# Altium schematic symbol library TTL_Library.SchLib: 480 symbols (part 1 of 4)
Pins are listed as number, name and electrical type; pins without a type are passive.

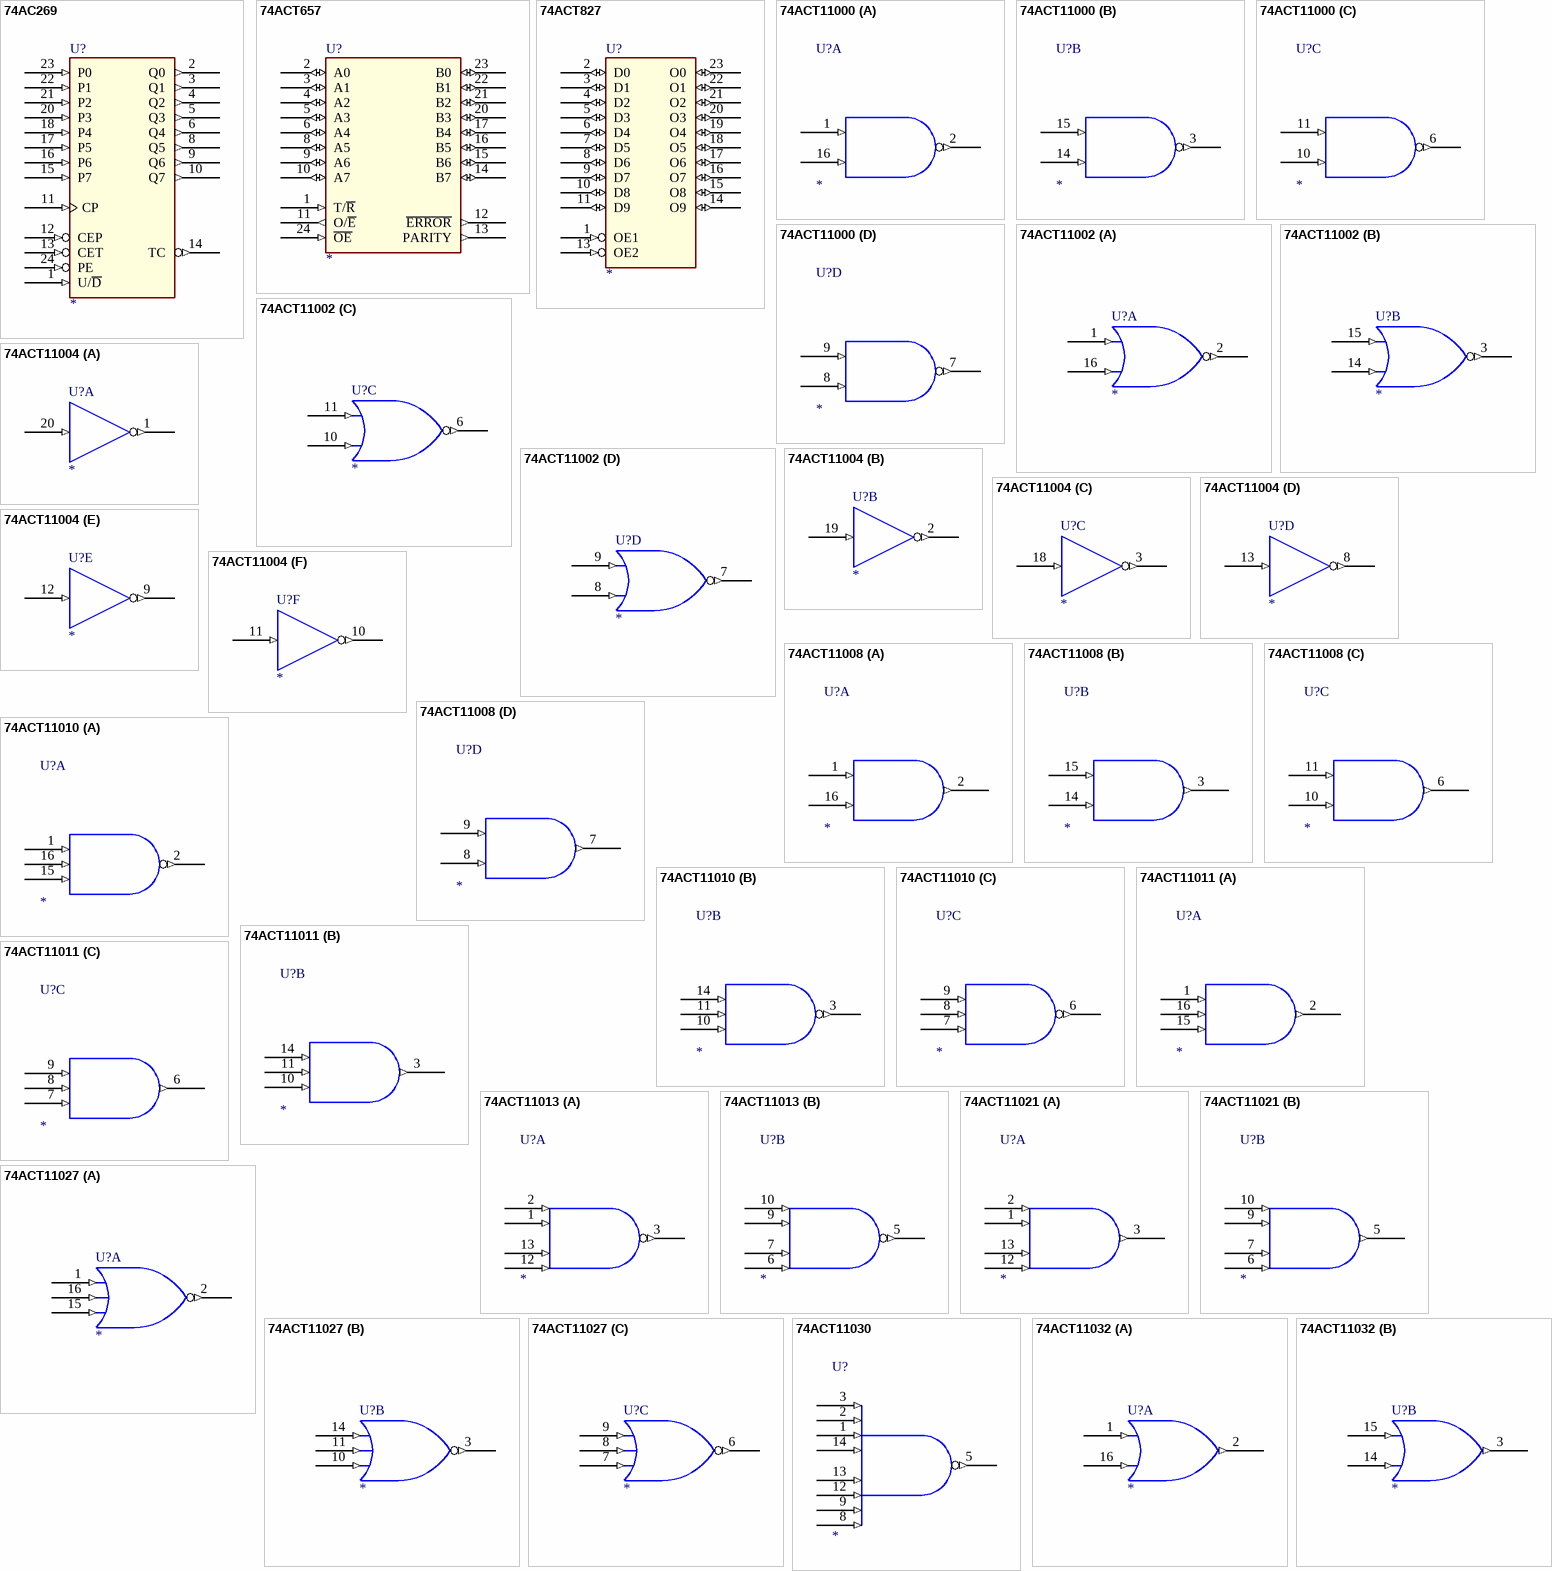
[diagram p0: symbols 74AC269 to 74ACT11032]

## 74AC269
designator U?
pins: 1 U/~{D} (in), 2 Q0 (out), 3 Q1 (out), 4 Q2 (out), 5 Q3 (out), 6 Q4 (out), 7 GND (power) hidden to GND, 8 Q5 (out), 9 Q6 (out), 10 Q7 (out), 11 CP (in), 12 CEP (in), 13 CET (in), 14 TC (out), 15 P7 (in), 16 P6 (in), 17 P5 (in), 18 P4 (in), 19 VCC (power) hidden to VCC, 20 P3 (in), 21 P2 (in), 22 P1 (in), 23 P0 (in), 24 PE (in)

## 74ACT657
designator U?
pins: 1 T/~{R} (in), 2 A0 (io), 3 A1 (io), 4 A2 (io), 5 A3 (io), 6 A4 (io), 7 VCC (power) hidden to VCC, 8 A5 (io), 9 A6 (io), 10 A7 (io), 11 O/~{E} (out), 12 ~{ERROR} (out), 13 PARITY (out), 14 B7 (io), 15 B6 (io), 16 B5 (io), 17 B4 (io), 18 GND (power) hidden to GND, 19 GND (power) hidden to GND, 20 B3 (io), 21 B2 (io), 22 B1 (io), 23 B0 (io), 24 ~{OE} (in)

## 74ACT827
designator U?
pins: 1 OE1 (in), 2 D0 (io), 3 D1 (io), 4 D2 (io), 5 D3 (io), 6 D4 (io), 7 D5 (io), 8 D6 (io), 9 D7 (io), 10 D8 (io), 11 D9 (io), 12 GND (power) hidden to GND, 13 OE2 (in), 14 O9 (io), 15 O8 (io), 16 O7 (io), 17 O6 (io), 18 O5 (io), 19 O4 (io), 20 O3 (io), 21 O2 (io), 22 O1 (io), 23 O0 (io), 24 VCC (power) hidden to VCC

## 74ACT11000
designator U?
part A pins: 1 I0 (in), 2 O (out), 4 GND (power) hidden to GND, 5 GND (power) hidden to GND, 12 VCC (power) hidden to VCC, 13 VCC (power) hidden to VCC, 16 I1 (in)
part B pins: 3 O (out), 4 GND (power) hidden to GND, 5 GND (power) hidden to GND, 12 VCC (power) hidden to VCC, 13 VCC (power) hidden to VCC, 14 I1 (in), 15 I0 (in)
part C pins: 4 GND (power) hidden to GND, 5 GND (power) hidden to GND, 6 O (out), 10 I1 (in), 11 I0 (in), 12 VCC (power) hidden to VCC, 13 VCC (power) hidden to VCC
part D pins: 4 GND (power) hidden to GND, 5 GND (power) hidden to GND, 7 O (out), 8 I1 (in), 9 I0 (in), 12 VCC (power) hidden to VCC, 13 VCC (power) hidden to VCC
1 alternate drawing of the same symbol

## 74ACT11002
designator U?
part A pins: 1 I0 (in), 2 O (out), 4 GND (power) hidden to GND, 5 GND (power) hidden to GND, 12 VCC (power) hidden to VCC, 13 VCC (power) hidden to VCC, 16 I1 (in)
part B pins: 3 O (out), 4 GND (power) hidden to GND, 5 GND (power) hidden to GND, 12 VCC (power) hidden to VCC, 13 VCC (power) hidden to VCC, 14 I1 (in), 15 I0 (in)
part C pins: 4 GND (power) hidden to GND, 5 GND (power) hidden to GND, 6 O (out), 10 I1 (in), 11 I0 (in), 12 VCC (power) hidden to VCC, 13 VCC (power) hidden to VCC
part D pins: 4 GND (power) hidden to GND, 5 GND (power) hidden to GND, 7 O (out), 8 I1 (in), 9 I0 (in), 12 VCC (power) hidden to VCC, 13 VCC (power) hidden to VCC
1 alternate drawing of the same symbol

## 74ACT11004
designator U?
part A pins: 1 O (out), 4 GND (power) hidden to GND, 5 GND (power) hidden to GND, 6 GND (power) hidden to GND, 7 GND (power) hidden to GND, 15 VCC (power) hidden to VCC, 16 VCC (power) hidden to VCC, 20 I (in)
part B pins: 2 O (out), 4 GND (power) hidden to GND, 5 GND (power) hidden to GND, 6 GND (power) hidden to GND, 7 GND (power) hidden to GND, 15 VCC (power) hidden to VCC, 16 VCC (power) hidden to VCC, 19 I (in)
part C pins: 3 O (out), 4 GND (power) hidden to GND, 5 GND (power) hidden to GND, 6 GND (power) hidden to GND, 7 GND (power) hidden to GND, 15 VCC (power) hidden to VCC, 16 VCC (power) hidden to VCC, 18 I (in)
part D pins: 4 GND (power) hidden to GND, 5 GND (power) hidden to GND, 6 GND (power) hidden to GND, 7 GND (power) hidden to GND, 8 O (out), 13 I (in), 15 VCC (power) hidden to VCC, 16 VCC (power) hidden to VCC
part E pins: 4 GND (power) hidden to GND, 5 GND (power) hidden to GND, 6 GND (power) hidden to GND, 7 GND (power) hidden to GND, 9 O (out), 12 I (in), 15 VCC (power) hidden to VCC, 16 VCC (power) hidden to VCC
part F pins: 4 GND (power) hidden to GND, 5 GND (power) hidden to GND, 6 GND (power) hidden to GND, 7 GND (power) hidden to GND, 10 O (out), 11 I (in), 15 VCC (power) hidden to VCC, 16 VCC (power) hidden to VCC
1 alternate drawing of the same symbol

## 74ACT11008
designator U?
part A pins: 1 I0 (in), 2 O (out), 4 GND (power) hidden to GND, 5 GND (power) hidden to GND, 12 VCC (power) hidden to VCC, 13 VCC (power) hidden to VCC, 16 I1 (in)
part B pins: 3 O (out), 4 GND (power) hidden to GND, 5 GND (power) hidden to GND, 12 VCC (power) hidden to VCC, 13 VCC (power) hidden to VCC, 14 I1 (in), 15 I0 (in)
part C pins: 4 GND (power) hidden to GND, 5 GND (power) hidden to GND, 6 O (out), 10 I1 (in), 11 I0 (in), 12 VCC (power) hidden to VCC, 13 VCC (power) hidden to VCC
part D pins: 4 GND (power) hidden to GND, 5 GND (power) hidden to GND, 7 O (out), 8 I1 (in), 9 I0 (in), 12 VCC (power) hidden to VCC, 13 VCC (power) hidden to VCC
1 alternate drawing of the same symbol

## 74ACT11010
designator U?
part A pins: 1 I0 (in), 2 O (out), 4 GND (power) hidden to GND, 5 GND (power) hidden to GND, 12 VCC (power) hidden to VCC, 13 VCC (power) hidden to VCC, 15 I2 (in), 16 I1 (in)
part B pins: 3 O (out), 4 GND (power) hidden to GND, 5 GND (power) hidden to GND, 10 I2 (in), 11 I1 (in), 12 VCC (power) hidden to VCC, 13 VCC (power) hidden to VCC, 14 I0 (in)
part C pins: 4 GND (power) hidden to GND, 5 GND (power) hidden to GND, 6 O (out), 7 I2 (in), 8 I1 (in), 9 I0 (in), 12 VCC (power) hidden to VCC, 13 VCC (power) hidden to VCC
1 alternate drawing of the same symbol

## 74ACT11011
designator U?
part A pins: 1 I0 (in), 2 O (out), 4 GND (power) hidden to GND, 5 GND (power) hidden to GND, 12 VCC (power) hidden to VCC, 13 VCC (power) hidden to VCC, 15 I2 (in), 16 I1 (in)
part B pins: 3 O (out), 4 GND (power) hidden to GND, 5 GND (power) hidden to GND, 10 I2 (in), 11 I1 (in), 12 VCC (power) hidden to VCC, 13 VCC (power) hidden to VCC, 14 I0 (in)
part C pins: 4 GND (power) hidden to GND, 5 GND (power) hidden to GND, 6 O (out), 7 I2 (in), 8 I1 (in), 9 I0 (in), 12 VCC (power) hidden to VCC, 13 VCC (power) hidden to VCC
1 alternate drawing of the same symbol

## 74ACT11013
designator U?
part A pins: 1 I1 (in), 2 I0 (in), 3 O (out), 4 GND (power) hidden to GND, 11 VCC (power) hidden to VCC, 12 I3 (in), 13 I2 (in)
part B pins: 4 GND (power) hidden to GND, 5 O (out), 6 I3 (in), 7 I2 (in), 9 I1 (in), 10 I0 (in), 11 VCC (power) hidden to VCC
1 alternate drawing of the same symbol

## 74ACT11021
designator U?
part A pins: 1 I1 (in), 2 I0 (in), 3 O (out), 4 GND (power) hidden to GND, 11 VCC (power) hidden to VCC, 12 I3 (in), 13 I2 (in)
part B pins: 4 GND (power) hidden to GND, 5 O (out), 6 I3 (in), 7 I2 (in), 9 I1 (in), 10 I0 (in), 11 VCC (power) hidden to VCC
1 alternate drawing of the same symbol

## 74ACT11027
designator U?
part A pins: 1 I0 (in), 2 O (out), 4 GND (power) hidden to GND, 5 GND (power) hidden to GND, 12 VCC (power) hidden to VCC, 13 VCC (power) hidden to VCC, 15 I2 (in), 16 I1 (in)
part B pins: 3 O (out), 4 GND (power) hidden to GND, 5 GND (power) hidden to GND, 10 I2 (in), 11 I1 (in), 12 VCC (power) hidden to VCC, 13 VCC (power) hidden to VCC, 14 I0 (in)
part C pins: 4 GND (power) hidden to GND, 5 GND (power) hidden to GND, 6 O (out), 7 I2 (in), 8 I1 (in), 9 I0 (in), 12 VCC (power) hidden to VCC, 13 VCC (power) hidden to VCC
1 alternate drawing of the same symbol

## 74ACT11030
designator U?
pins: 1 I2 (in), 2 I1 (in), 3 I0 (in), 4 GND (power) hidden to GND, 5 O (out), 8 I7 (in), 9 I6 (in), 11 VCC (power) hidden to VCC, 12 I5 (in), 13 I4 (in), 14 I3 (in)
1 alternate drawing of the same symbol

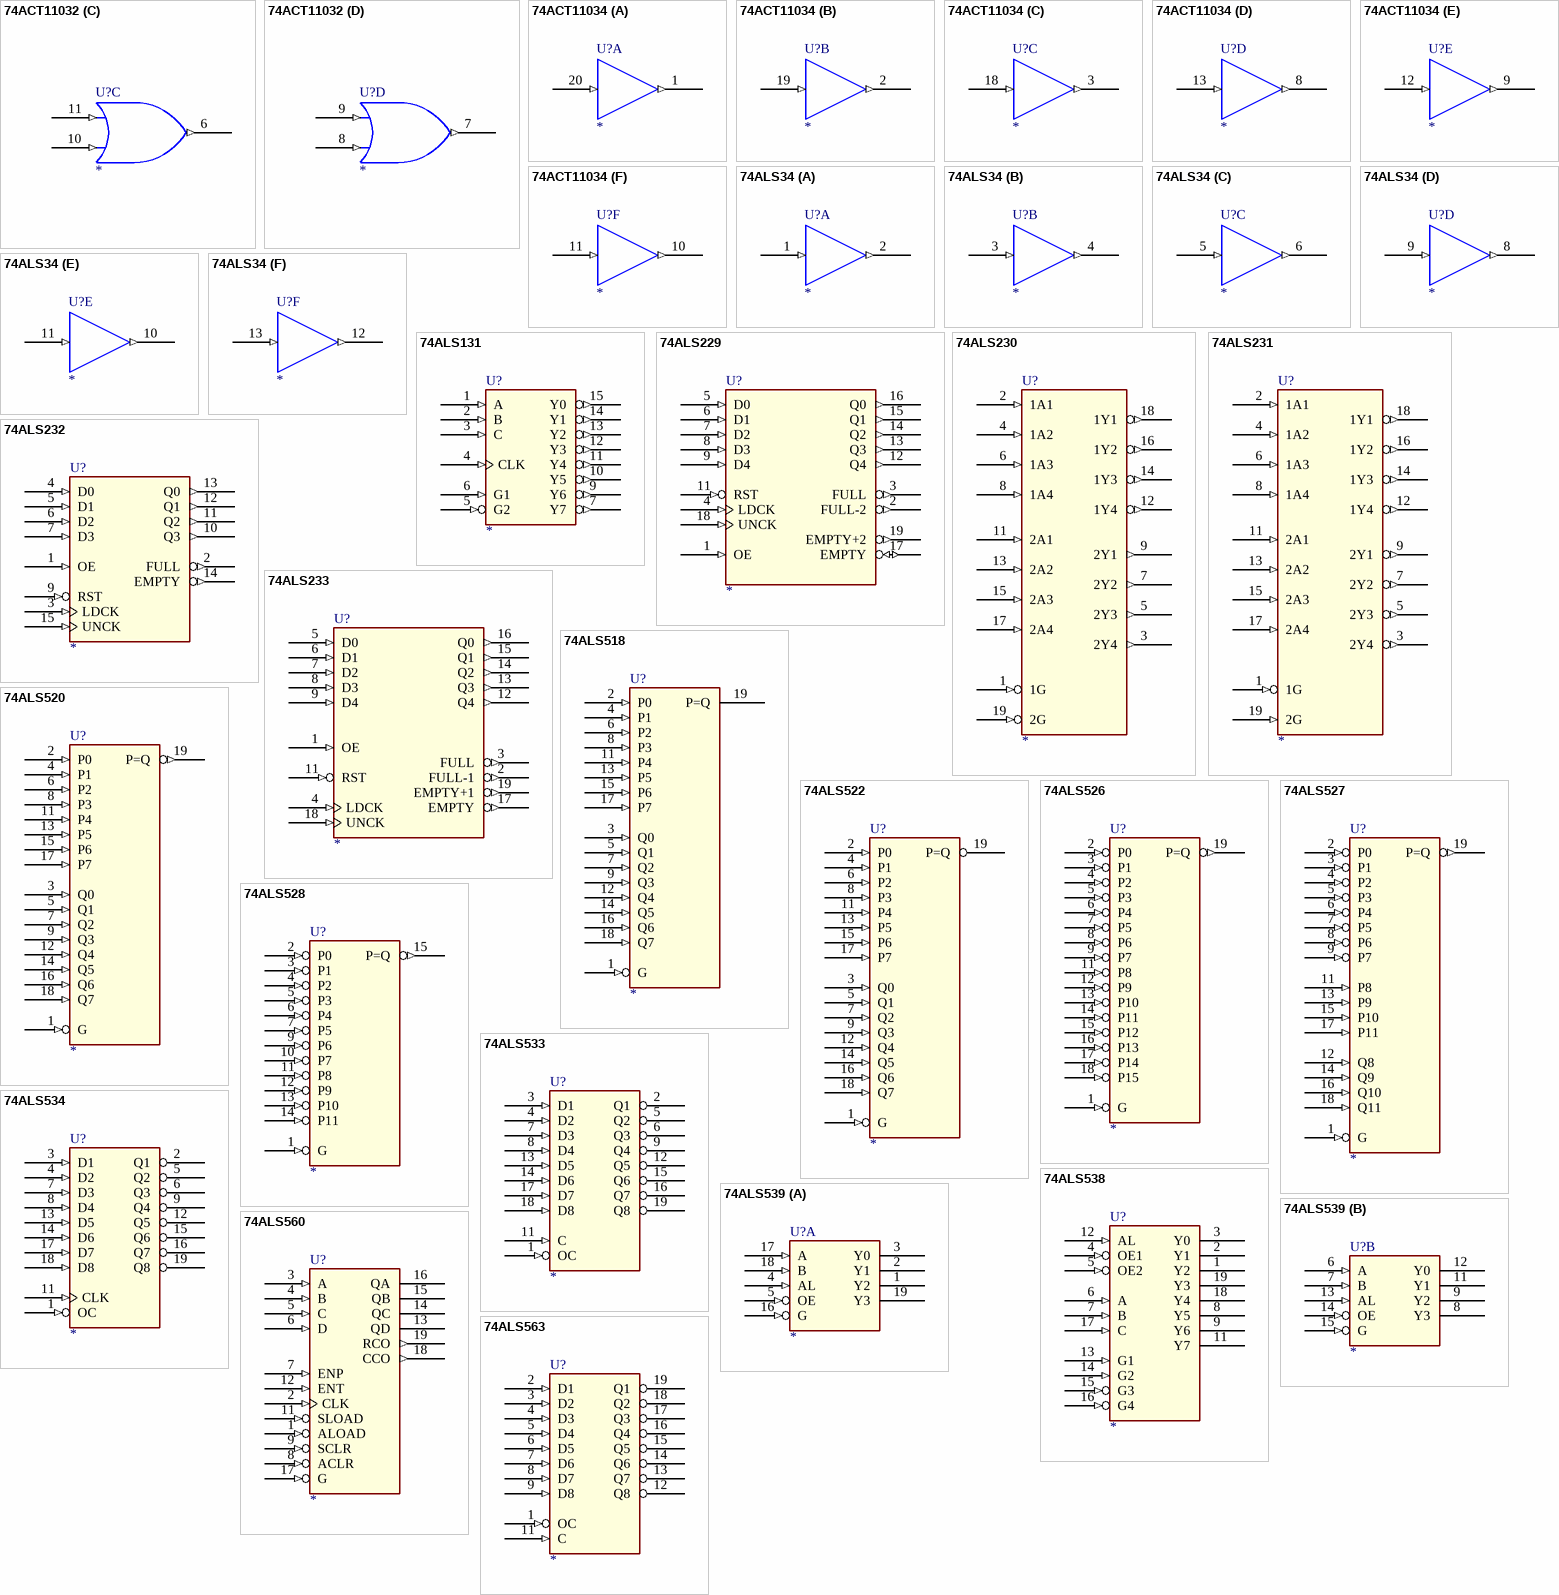
[diagram p1: symbols 74ACT11032 to 74ALS563]

## 74ACT11032
designator U?
part A pins: 1 I0 (in), 2 O (out), 4 GND (power) hidden to GND, 5 GND (power) hidden to GND, 12 VCC (power) hidden to VCC, 13 VCC (power) hidden to VCC, 16 I1 (in)
part B pins: 3 O (out), 4 GND (power) hidden to GND, 5 GND (power) hidden to GND, 12 VCC (power) hidden to VCC, 13 VCC (power) hidden to VCC, 14 I1 (in), 15 I0 (in)
part C pins: 4 GND (power) hidden to GND, 5 GND (power) hidden to GND, 6 O (out), 10 I1 (in), 11 I0 (in), 12 VCC (power) hidden to VCC, 13 VCC (power) hidden to VCC
part D pins: 4 GND (power) hidden to GND, 5 GND (power) hidden to GND, 7 O (out), 8 I1 (in), 9 I0 (in), 12 VCC (power) hidden to VCC, 13 VCC (power) hidden to VCC
1 alternate drawing of the same symbol

## 74ACT11034
designator U?
part A pins: 1 O (out), 4 GND (power) hidden to GND, 5 GND (power) hidden to GND, 6 GND (power) hidden to GND, 7 GND (power) hidden to GND, 15 VCC (power) hidden to VCC, 16 VCC (power) hidden to VCC, 20 I (in)
part B pins: 2 O (out), 4 GND (power) hidden to GND, 5 GND (power) hidden to GND, 6 GND (power) hidden to GND, 7 GND (power) hidden to GND, 15 VCC (power) hidden to VCC, 16 VCC (power) hidden to VCC, 19 I (in)
part C pins: 3 O (out), 4 GND (power) hidden to GND, 5 GND (power) hidden to GND, 6 GND (power) hidden to GND, 7 GND (power) hidden to GND, 15 VCC (power) hidden to VCC, 16 VCC (power) hidden to VCC, 18 I (in)
part D pins: 4 GND (power) hidden to GND, 5 GND (power) hidden to GND, 6 GND (power) hidden to GND, 7 GND (power) hidden to GND, 8 O (out), 13 I (in), 15 VCC (power) hidden to VCC, 16 VCC (power) hidden to VCC
part E pins: 4 GND (power) hidden to GND, 5 GND (power) hidden to GND, 6 GND (power) hidden to GND, 7 GND (power) hidden to GND, 9 O (out), 12 I (in), 15 VCC (power) hidden to VCC, 16 VCC (power) hidden to VCC
part F pins: 4 GND (power) hidden to GND, 5 GND (power) hidden to GND, 6 GND (power) hidden to GND, 7 GND (power) hidden to GND, 10 O (out), 11 I (in), 15 VCC (power) hidden to VCC, 16 VCC (power) hidden to VCC
1 alternate drawing of the same symbol

## 74ALS34
designator U?
part A pins: 1 I (in), 2 O (out), 7 GND (power) hidden to GND, 14 VCC (power) hidden to VCC
part B pins: 3 I (in), 4 O (out), 7 GND (power) hidden to GND, 14 VCC (power) hidden to VCC
part C pins: 5 I (in), 6 O (out), 7 GND (power) hidden to GND, 14 VCC (power) hidden to VCC
part D pins: 7 GND (power) hidden to GND, 8 O (out), 9 I (in), 14 VCC (power) hidden to VCC
part E pins: 7 GND (power) hidden to GND, 10 O (out), 11 I (in), 14 VCC (power) hidden to VCC
part F pins: 7 GND (power) hidden to GND, 12 O (out), 13 I (in), 14 VCC (power) hidden to VCC
1 alternate drawing of the same symbol

## 74ALS131
designator U?
pins: 1 A (in), 2 B (in), 3 C (in), 4 CLK (in), 5 G2 (in), 6 G1 (in), 7 Y7 (out), 8 GND (power) hidden to GND, 9 Y6 (out), 10 Y5 (out), 11 Y4 (out), 12 Y3 (out), 13 Y2 (out), 14 Y1 (out), 15 Y0 (out), 16 VCC (power) hidden to VCC

## 74ALS229
designator U?
pins: 1 OE (in), 2 FULL-2 (out), 3 FULL (out), 4 LDCK (in), 5 D0 (in), 6 D1 (in), 7 D2 (in), 8 D3 (in), 9 D4 (in), 10 GND (power) hidden to GND, 11 RST (in), 12 Q4 (out), 13 Q3 (out), 14 Q2 (out), 15 Q1 (out), 16 Q0 (out), 17 EMPTY (io), 18 UNCK (in), 19 EMPTY+2 (out), 20 VCC (power) hidden to VCC

## 74ALS230
designator U?
pins: 1 1G (in), 2 1A1 (in), 3 2Y4 (out), 4 1A2 (in), 5 2Y3 (out), 6 1A3 (in), 7 2Y2 (out), 8 1A4 (in), 9 2Y1 (out), 10 GND (power) hidden to GND, 11 2A1 (in), 12 1Y4 (out), 13 2A2 (in), 14 1Y3 (out), 15 2A3 (in), 16 1Y2 (out), 17 2A4 (in), 18 1Y1 (out), 19 2G (in), 20 VCC (power) hidden to VCC

## 74ALS231
designator U?
pins: 1 1G (in), 2 1A1 (in), 3 2Y4 (out), 4 1A2 (in), 5 2Y3 (out), 6 1A3 (in), 7 2Y2 (out), 8 1A4 (in), 9 2Y1 (out), 10 GND (power) hidden to GND, 11 2A1 (in), 12 1Y4 (out), 13 2A2 (in), 14 1Y3 (out), 15 2A3 (in), 16 1Y2 (out), 17 2A4 (in), 18 1Y1 (out), 19 2G (in), 20 VCC (power) hidden to VCC

## 74ALS232
designator U?
pins: 1 OE (in), 2 FULL (out), 3 LDCK (in), 4 D0 (in), 5 D1 (in), 6 D2 (in), 7 D3 (in), 8 GND (power) hidden to GND, 9 RST (in), 10 Q3 (out), 11 Q2 (out), 12 Q1 (out), 13 Q0 (out), 14 EMPTY (out), 15 UNCK (in), 16 VCC (power) hidden to VCC

## 74ALS233
designator U?
pins: 1 OE (in), 2 FULL-1 (out), 3 FULL (out), 4 LDCK (in), 5 D0 (in), 6 D1 (in), 7 D2 (in), 8 D3 (in), 9 D4 (in), 10 GND (power) hidden to GND, 11 RST (in), 12 Q4 (out), 13 Q3 (out), 14 Q2 (out), 15 Q1 (out), 16 Q0 (out), 17 EMPTY (out), 18 UNCK (in), 19 EMPTY+1 (out), 20 VCC (power) hidden to VCC

## 74ALS518
designator U?
pins: 1 G (in), 2 P0 (in), 3 Q0 (in), 4 P1 (in), 5 Q1 (in), 6 P2 (in), 7 Q2 (in), 8 P3 (in), 9 Q3 (in), 10 GND (power) hidden to GND, 11 P4 (in), 12 Q4 (in), 13 P5 (in), 14 Q5 (in), 15 P6 (in), 16 Q6 (in), 17 P7 (in), 18 Q7 (in), 19 P=Q (oc), 20 VCC (power) hidden to VCC

## 74ALS520
designator U?
pins: 1 G (in), 2 P0 (in), 3 Q0 (in), 4 P1 (in), 5 Q1 (in), 6 P2 (in), 7 Q2 (in), 8 P3 (in), 9 Q3 (in), 10 GND (power) hidden to GND, 11 P4 (in), 12 Q4 (in), 13 P5 (in), 14 Q5 (in), 15 P6 (in), 16 Q6 (in), 17 P7 (in), 18 Q7 (in), 19 P=Q (out), 20 VCC (power) hidden to VCC

## 74ALS522
designator U?
pins: 1 G (in), 2 P0 (in), 3 Q0 (in), 4 P1 (in), 5 Q1 (in), 6 P2 (in), 7 Q2 (in), 8 P3 (in), 9 Q3 (in), 10 GND (power) hidden to GND, 11 P4 (in), 12 Q4 (in), 13 P5 (in), 14 Q5 (in), 15 P6 (in), 16 Q6 (in), 17 P7 (in), 18 Q7 (in), 19 P=Q (oc), 20 VCC (power) hidden to VCC

## 74ALS526
designator U?
pins: 1 G (in), 2 P0 (in), 3 P1 (in), 4 P2 (in), 5 P3 (in), 6 P4 (in), 7 P5 (in), 8 P6 (in), 9 P7 (in), 10 GND (power) hidden to GND, 11 P8 (in), 12 P9 (in), 13 P10 (in), 14 P11 (in), 15 P12 (in), 16 P13 (in), 17 P14 (in), 18 P15 (in), 19 P=Q (out), 20 VCC (power) hidden to VCC

## 74ALS527
designator U?
pins: 1 G (in), 2 P0 (in), 3 P1 (in), 4 P2 (in), 5 P3 (in), 6 P4 (in), 7 P5 (in), 8 P6 (in), 9 P7 (in), 10 GND (power) hidden to GND, 11 P8 (in), 12 Q8 (in), 13 P9 (in), 14 Q9 (in), 15 P10 (in), 16 Q10 (in), 17 P11 (in), 18 Q11 (in), 19 P=Q (out), 20 VCC (power) hidden to VCC

## 74ALS528
designator U?
pins: 1 G (in), 2 P0 (in), 3 P1 (in), 4 P2 (in), 5 P3 (in), 6 P4 (in), 7 P5 (in), 8 GND (power) hidden to GND, 9 P6 (in), 10 P7 (in), 11 P8 (in), 12 P9 (in), 13 P10 (in), 14 P11 (in), 15 P=Q (out), 16 VCC (power) hidden to VCC

## 74ALS533
designator U?
pins: 1 OC (in), 2 Q1 (hiz), 3 D1 (in), 4 D2 (in), 5 Q2 (hiz), 6 Q3 (hiz), 7 D3 (in), 8 D4 (in), 9 Q4 (hiz), 10 GND (power) hidden to GND, 11 C (in), 12 Q5 (hiz), 13 D5 (in), 14 D6 (in), 15 Q6 (hiz), 16 Q7 (hiz), 17 D7 (in), 18 D8 (in), 19 Q8 (hiz), 20 VCC (power) hidden to VCC

## 74ALS534
designator U?
pins: 1 OC (in), 2 Q1 (hiz), 3 D1 (in), 4 D2 (in), 5 Q2 (hiz), 6 Q3 (hiz), 7 D3 (in), 8 D4 (in), 9 Q4 (hiz), 10 GND (power) hidden to GND, 11 CLK (in), 12 Q5 (hiz), 13 D5 (in), 14 D6 (in), 15 Q6 (hiz), 16 Q7 (hiz), 17 D7 (in), 18 D8 (in), 19 Q8 (hiz), 20 VCC (power) hidden to VCC

## 74ALS538
designator U?
pins: 1 Y2 (hiz), 2 Y1 (hiz), 3 Y0 (hiz), 4 OE1 (in), 5 OE2 (in), 6 A (in), 7 B (in), 8 Y5 (hiz), 9 Y6 (hiz), 10 GND (power) hidden to GND, 11 Y7 (hiz), 12 AL (in), 13 G1 (in), 14 G2 (in), 15 G3 (in), 16 G4 (in), 17 C (in), 18 Y4 (hiz), 19 Y3 (hiz), 20 VCC (power) hidden to VCC

## 74ALS539
designator U?
part A pins: 1 Y2 (hiz), 2 Y1 (hiz), 3 Y0 (hiz), 4 AL (in), 5 OE (in), 10 GND (power) hidden to GND, 16 G (in), 17 A (in), 18 B (in), 19 Y3 (hiz), 20 VCC (power) hidden to VCC
part B pins: 6 A (in), 7 B (in), 8 Y3 (hiz), 9 Y2 (hiz), 10 GND (power) hidden to GND, 11 Y1 (hiz), 12 Y0 (hiz), 13 AL (in), 14 OE (in), 15 G (in), 20 VCC (power) hidden to VCC

## 74ALS560
designator U?
pins: 1 ALOAD (in), 2 CLK (in), 3 A (in), 4 B (in), 5 C (in), 6 D (in), 7 ENP (in), 8 ACLR (in), 9 SCLR (in), 10 GND (power) hidden to GND, 11 SLOAD (in), 12 ENT (in), 13 QD (hiz), 14 QC (hiz), 15 QB (hiz), 16 QA (hiz), 17 G (in), 18 CCO (out), 19 RCO (out), 20 VCC (power) hidden to VCC

## 74ALS563
designator U?
pins: 1 OC (in), 2 D1 (in), 3 D2 (in), 4 D3 (in), 5 D4 (in), 6 D5 (in), 7 D6 (in), 8 D7 (in), 9 D8 (in), 10 GND (power) hidden to GND, 11 C (in), 12 Q8 (hiz), 13 Q7 (hiz), 14 Q6 (hiz), 15 Q5 (hiz), 16 Q4 (hiz), 17 Q3 (hiz), 18 Q2 (hiz), 19 Q1 (hiz), 20 VCC (power) hidden to VCC

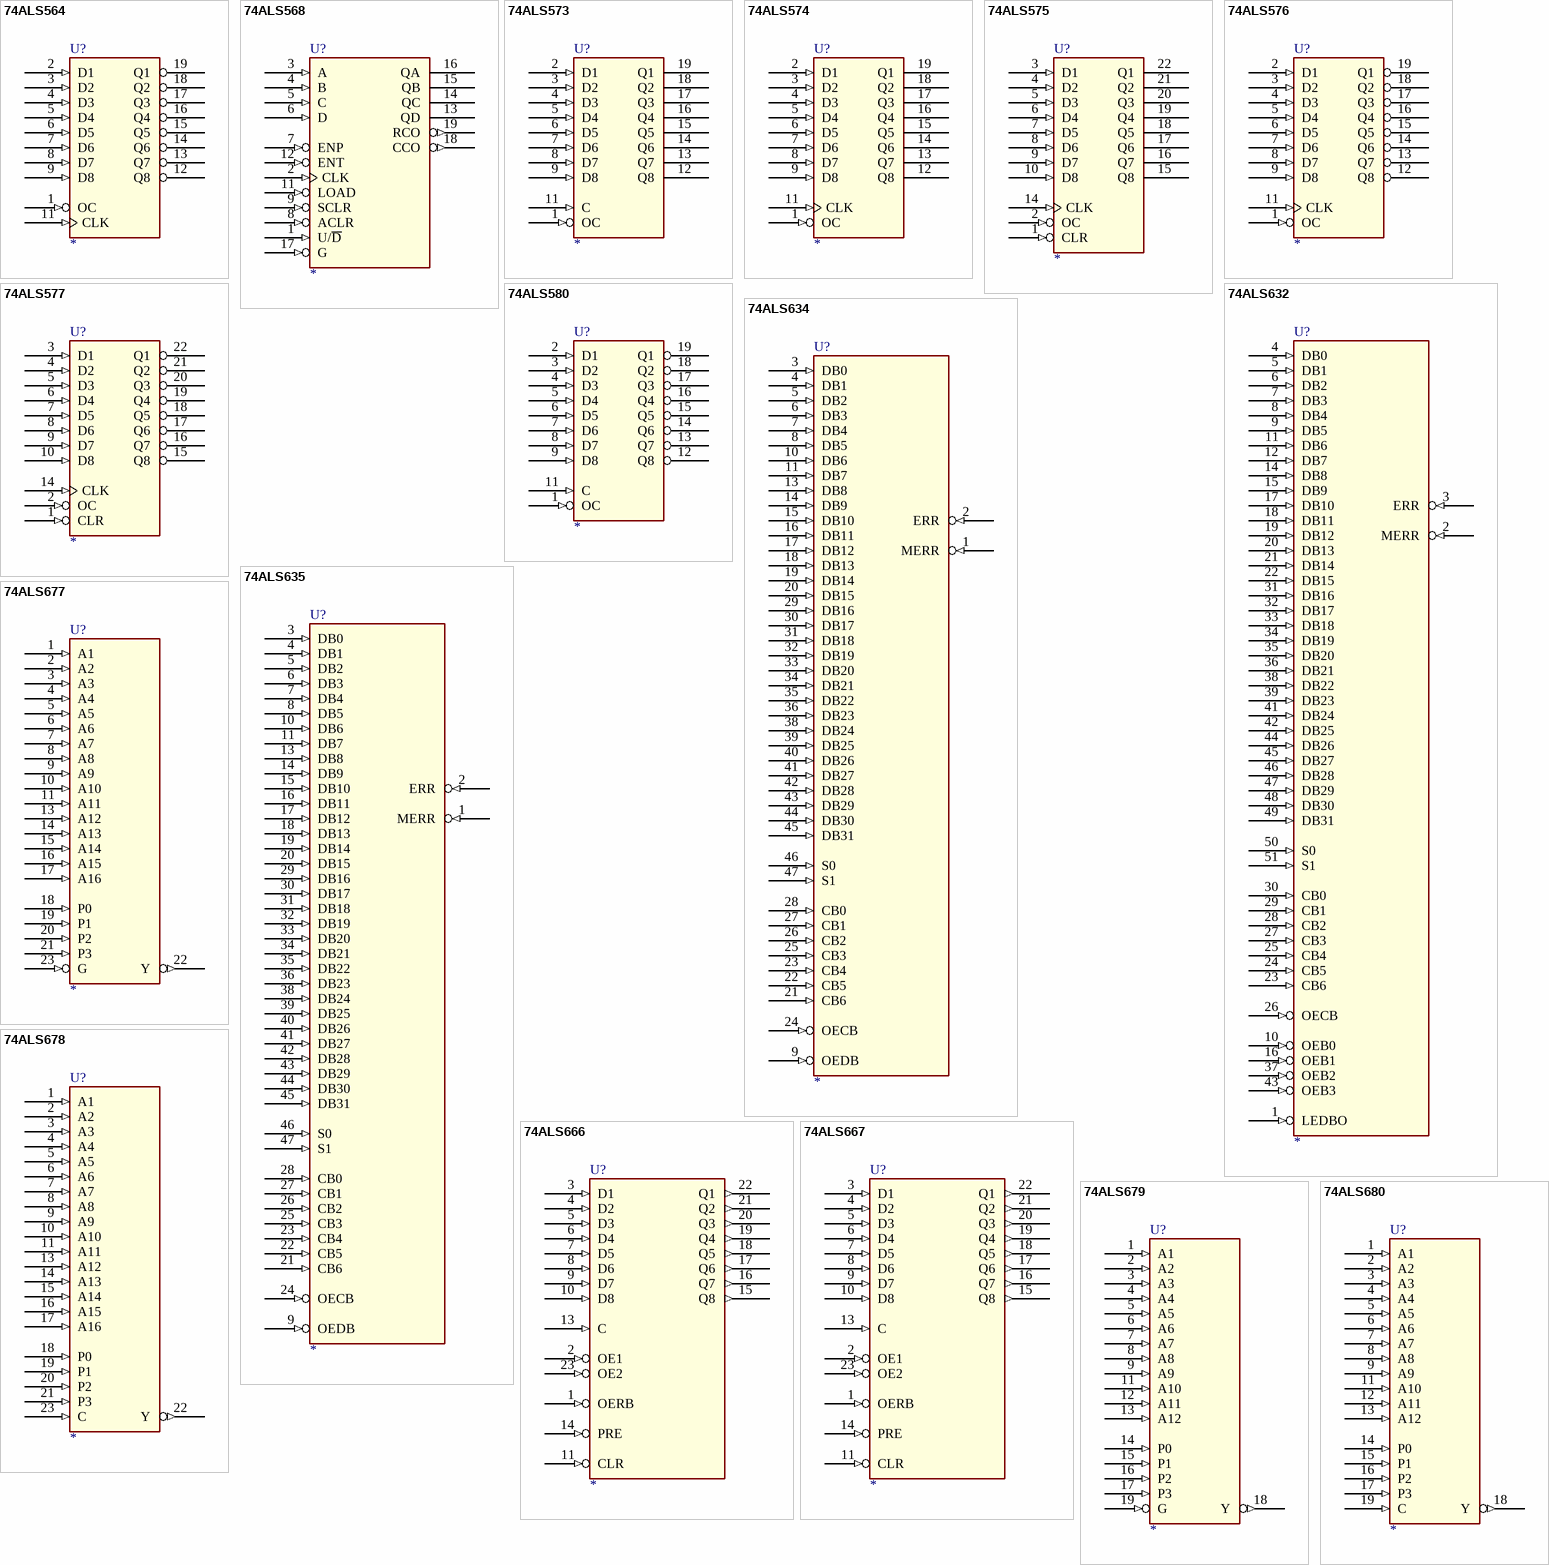
[diagram p2: symbols 74ALS564 to 74ALS680]

## 74ALS564
designator U?
pins: 1 OC (in), 2 D1 (in), 3 D2 (in), 4 D3 (in), 5 D4 (in), 6 D5 (in), 7 D6 (in), 8 D7 (in), 9 D8 (in), 10 GND (power) hidden to GND, 11 CLK (in), 12 Q8 (hiz), 13 Q7 (hiz), 14 Q6 (hiz), 15 Q5 (hiz), 16 Q4 (hiz), 17 Q3 (hiz), 18 Q2 (hiz), 19 Q1 (hiz), 20 VCC (power) hidden to VCC

## 74ALS568
designator U?
pins: 1 U/~{D} (in), 2 CLK (in), 3 A (in), 4 B (in), 5 C (in), 6 D (in), 7 ENP (in), 8 ACLR (in), 9 SCLR (in), 10 GND (power) hidden to GND, 11 LOAD (in), 12 ENT (in), 13 QD (hiz), 14 QC (hiz), 15 QB (hiz), 16 QA (hiz), 17 G (in), 18 CCO (out), 19 RCO (out), 20 VCC (power) hidden to VCC

## 74ALS573
designator U?
pins: 1 OC (in), 2 D1 (in), 3 D2 (in), 4 D3 (in), 5 D4 (in), 6 D5 (in), 7 D6 (in), 8 D7 (in), 9 D8 (in), 10 GND (power) hidden to GND, 11 C (in), 12 Q8 (hiz), 13 Q7 (hiz), 14 Q6 (hiz), 15 Q5 (hiz), 16 Q4 (hiz), 17 Q3 (hiz), 18 Q2 (hiz), 19 Q1 (hiz), 20 VCC (power) hidden to VCC

## 74ALS574
designator U?
pins: 1 OC (in), 2 D1 (in), 3 D2 (in), 4 D3 (in), 5 D4 (in), 6 D5 (in), 7 D6 (in), 8 D7 (in), 9 D8 (in), 10 GND (power), 11 CLK (in), 12 Q8 (hiz), 13 Q7 (hiz), 14 Q6 (hiz), 15 Q5 (hiz), 16 Q4 (hiz), 17 Q3 (hiz), 18 Q2 (hiz), 19 Q1 (hiz), 20 VCC (power)

## 74ALS575
designator U?
pins: 1 CLR (in), 2 OC (in), 3 D1 (in), 4 D2 (in), 5 D3 (in), 6 D4 (in), 7 D5 (in), 8 D6 (in), 9 D7 (in), 10 D8 (in), 12 GND (power) hidden to GND, 14 CLK (in), 15 Q8 (hiz), 16 Q7 (hiz), 17 Q6 (hiz), 18 Q5 (hiz), 19 Q4 (hiz), 20 Q3 (hiz), 21 Q2 (hiz), 22 Q1 (hiz), 24 VCC (power) hidden to VCC

## 74ALS576
designator U?
pins: 1 OC (in), 2 D1 (in), 3 D2 (in), 4 D3 (in), 5 D4 (in), 6 D5 (in), 7 D6 (in), 8 D7 (in), 9 D8 (in), 10 GND (power) hidden to GND, 11 CLK (in), 12 Q8 (hiz), 13 Q7 (hiz), 14 Q6 (hiz), 15 Q5 (hiz), 16 Q4 (hiz), 17 Q3 (hiz), 18 Q2 (hiz), 19 Q1 (hiz), 20 VCC (power) hidden to VCC

## 74ALS577
designator U?
pins: 1 CLR (in), 2 OC (in), 3 D1 (in), 4 D2 (in), 5 D3 (in), 6 D4 (in), 7 D5 (in), 8 D6 (in), 9 D7 (in), 10 D8 (in), 12 GND (power) hidden to GND, 14 CLK (in), 15 Q8 (hiz), 16 Q7 (hiz), 17 Q6 (hiz), 18 Q5 (hiz), 19 Q4 (hiz), 20 Q3 (hiz), 21 Q2 (hiz), 22 Q1 (hiz), 24 VCC (power) hidden to VCC

## 74ALS580
designator U?
pins: 1 OC (in), 2 D1 (in), 3 D2 (in), 4 D3 (in), 5 D4 (in), 6 D5 (in), 7 D6 (in), 8 D7 (in), 9 D8 (in), 10 GND (power) hidden to GND, 11 C (in), 12 Q8 (hiz), 13 Q7 (hiz), 14 Q6 (hiz), 15 Q5 (hiz), 16 Q4 (hiz), 17 Q3 (hiz), 18 Q2 (hiz), 19 Q1 (hiz), 20 VCC (power) hidden to VCC

## 74ALS632
designator U?
pins: 1 LEDBO (in), 2 MERR (in), 3 ERR (in), 4 DB0 (in), 5 DB1 (in), 6 DB2 (in), 7 DB3 (in), 8 DB4 (in), 9 DB5 (in), 10 OEB0 (in), 11 DB6 (in), 12 DB7 (in), 13 GND (power) hidden to GND, 14 DB8 (in), 15 DB9 (in), 16 OEB1 (in), 17 DB10 (in), 18 DB11 (in), 19 DB12 (in), 20 DB13 (in), 21 DB14 (in), 22 DB15 (in), 23 CB6 (in), 24 CB5 (in), 25 CB4 (in), 26 OECB (in), 27 CB3 (in), 28 CB2 (in), 29 CB1 (in), 30 CB0 (in), 31 DB16 (in), 32 DB17 (in), 33 DB18 (in), 34 DB19 (in), 35 DB20 (in), 36 DB21 (in), 37 OEB2 (in), 38 DB22 (in), 39 DB23 (in), 40 GND (power) hidden to GND, 41 DB24 (in), 42 DB25 (in), 43 OEB3 (in), 44 DB26 (in), 45 DB27 (in), 46 DB28 (in), 47 DB29 (in), 48 DB30 (in), 49 DB31 (in), 50 S0 (in), 51 S1 (in), 52 VCC (power) hidden to VCC

## 74ALS634
designator U?
pins: 1 MERR (in), 2 ERR (in), 3 DB0 (in), 4 DB1 (in), 5 DB2 (in), 6 DB3 (in), 7 DB4 (in), 8 DB5 (in), 9 OEDB (in), 10 DB6 (in), 11 DB7 (in), 12 GND (power) hidden to GND, 13 DB8 (in), 14 DB9 (in), 15 DB10 (in), 16 DB11 (in), 17 DB12 (in), 18 DB13 (in), 19 DB14 (in), 20 DB15 (in), 21 CB6 (in), 22 CB5 (in), 23 CB4 (in), 24 OECB (in), 25 CB3 (in), 26 CB2 (in), 27 CB1 (in), 28 CB0 (in), 29 DB16 (in), 30 DB17 (in), 31 DB18 (in), 32 DB19 (in), 33 DB20 (in), 34 DB21 (in), 35 DB22 (in), 36 DB23 (in), 37 GND (power) hidden to GND, 38 DB24 (in), 39 DB25 (in), 40 DB26 (in), 41 DB27 (in), 42 DB28 (in), 43 DB29 (in), 44 DB30 (in), 45 DB31 (in), 46 S0 (in), 47 S1 (in), 48 VCC (power) hidden to VCC

## 74ALS635
designator U?
pins: 1 MERR (in), 2 ERR (in), 3 DB0 (in), 4 DB1 (in), 5 DB2 (in), 6 DB3 (in), 7 DB4 (in), 8 DB5 (in), 9 OEDB (in), 10 DB6 (in), 11 DB7 (in), 12 GND (power) hidden to GND, 13 DB8 (in), 14 DB9 (in), 15 DB10 (in), 16 DB11 (in), 17 DB12 (in), 18 DB13 (in), 19 DB14 (in), 20 DB15 (in), 21 CB6 (in), 22 CB5 (in), 23 CB4 (in), 24 OECB (in), 25 CB3 (in), 26 CB2 (in), 27 CB1 (in), 28 CB0 (in), 29 DB16 (in), 30 DB17 (in), 31 DB18 (in), 32 DB19 (in), 33 DB20 (in), 34 DB21 (in), 35 DB22 (in), 36 DB23 (in), 37 GND (power) hidden to GND, 38 DB24 (in), 39 DB25 (in), 40 DB26 (in), 41 DB27 (in), 42 DB28 (in), 43 DB29 (in), 44 DB30 (in), 45 DB31 (in), 46 S0 (in), 47 S1 (in), 48 VCC (power) hidden to VCC

## 74ALS666
designator U?
pins: 1 OERB (in), 2 OE1 (in), 3 D1 (in), 4 D2 (in), 5 D3 (in), 6 D4 (in), 7 D5 (in), 8 D6 (in), 9 D7 (in), 10 D8 (in), 11 CLR (in), 12 GND (power) hidden to GND, 13 C (in), 14 PRE (in), 15 Q8 (out), 16 Q7 (out), 17 Q6 (out), 18 Q5 (out), 19 Q4 (out), 20 Q3 (out), 21 Q2 (out), 22 Q1 (out), 23 OE2 (in), 24 VCC (power) hidden to VCC

## 74ALS667
designator U?
pins: 1 OERB (in), 2 OE1 (in), 3 D1 (in), 4 D2 (in), 5 D3 (in), 6 D4 (in), 7 D5 (in), 8 D6 (in), 9 D7 (in), 10 D8 (in), 11 CLR (in), 12 GND (power) hidden to GND, 13 C (in), 14 PRE (in), 15 Q8 (out), 16 Q7 (out), 17 Q6 (out), 18 Q5 (out), 19 Q4 (out), 20 Q3 (out), 21 Q2 (out), 22 Q1 (out), 23 OE2 (in), 24 VCC (power) hidden to VCC

## 74ALS677
designator U?
pins: 1 A1 (in), 2 A2 (in), 3 A3 (in), 4 A4 (in), 5 A5 (in), 6 A6 (in), 7 A7 (in), 8 A8 (in), 9 A9 (in), 10 A10 (in), 11 A11 (in), 12 GND (power) hidden to GND, 13 A12 (in), 14 A13 (in), 15 A14 (in), 16 A15 (in), 17 A16 (in), 18 P0 (in), 19 P1 (in), 20 P2 (in), 21 P3 (in), 22 Y (out), 23 G (in), 24 VCC (power) hidden to VCC

## 74ALS678
designator U?
pins: 1 A1 (in), 2 A2 (in), 3 A3 (in), 4 A4 (in), 5 A5 (in), 6 A6 (in), 7 A7 (in), 8 A8 (in), 9 A9 (in), 10 A10 (in), 11 A11 (in), 12 GND (power) hidden to GND, 13 A12 (in), 14 A13 (in), 15 A14 (in), 16 A15 (in), 17 A16 (in), 18 P0 (in), 19 P1 (in), 20 P2 (in), 21 P3 (in), 22 Y (out), 23 C (in), 24 VCC (power) hidden to VCC

## 74ALS679
designator U?
pins: 1 A1 (in), 2 A2 (in), 3 A3 (in), 4 A4 (in), 5 A5 (in), 6 A6 (in), 7 A7 (in), 8 A8 (in), 9 A9 (in), 10 GND (power) hidden to GND, 11 A10 (in), 12 A11 (in), 13 A12 (in), 14 P0 (in), 15 P1 (in), 16 P2 (in), 17 P3 (in), 18 Y (out), 19 G (in), 20 VCC (power) hidden to VCC

## 74ALS680
designator U?
pins: 1 A1 (in), 2 A2 (in), 3 A3 (in), 4 A4 (in), 5 A5 (in), 6 A6 (in), 7 A7 (in), 8 A8 (in), 9 A9 (in), 10 GND (power) hidden to GND, 11 A10 (in), 12 A11 (in), 13 A12 (in), 14 P0 (in), 15 P1 (in), 16 P2 (in), 17 P3 (in), 18 Y (out), 19 C (in), 20 VCC (power) hidden to VCC

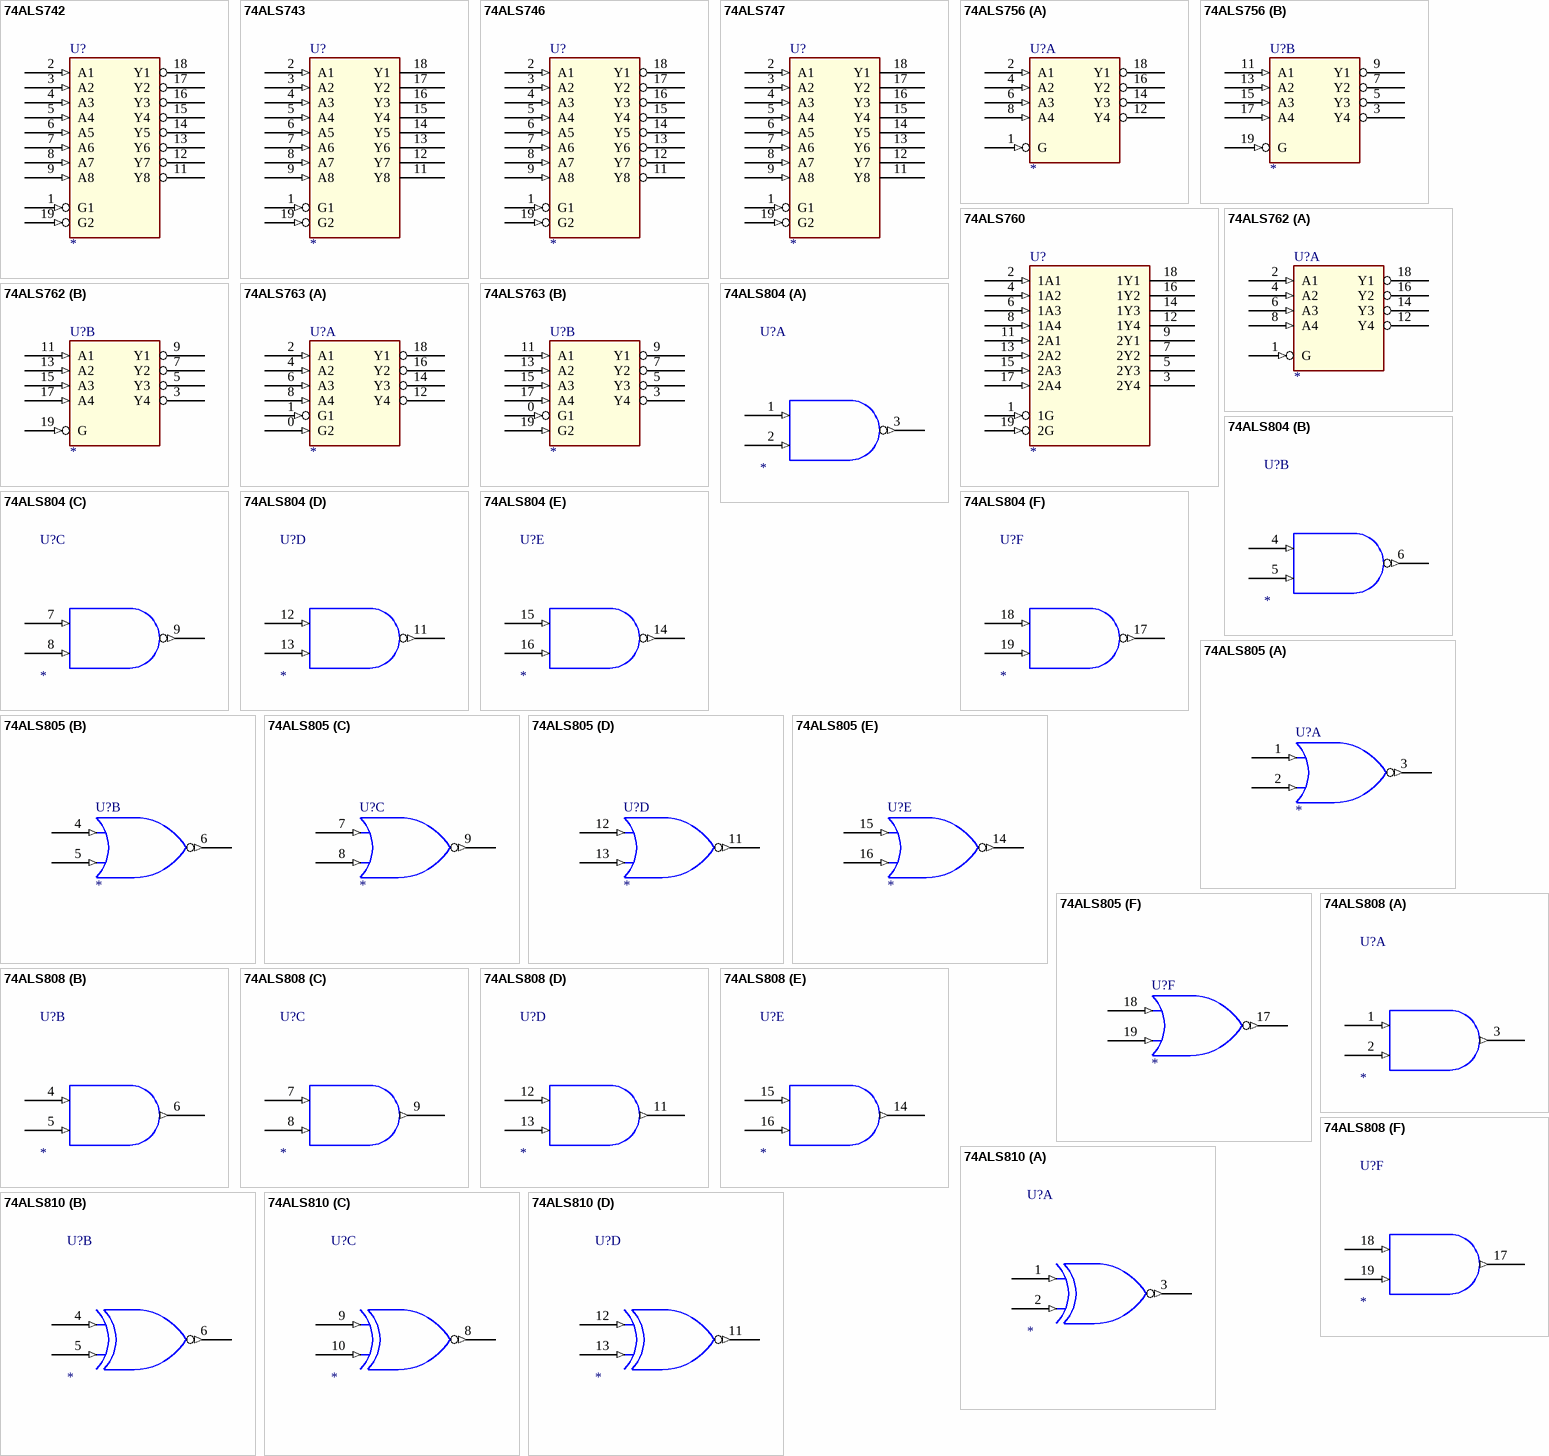
[diagram p3: symbols 74ALS742 to 74ALS810]

## 74ALS742
designator U?
pins: 1 G1 (in), 2 A1 (in), 3 A2 (in), 4 A3 (in), 5 A4 (in), 6 A5 (in), 7 A6 (in), 8 A7 (in), 9 A8 (in), 10 GND (power) hidden to GND, 11 Y8 (oc), 12 Y7 (oc), 13 Y6 (oc), 14 Y5 (oc), 15 Y4 (oc), 16 Y3 (oc), 17 Y2 (oc), 18 Y1 (oc), 19 G2 (in), 20 VCC (power) hidden to VCC

## 74ALS743
designator U?
pins: 1 G1 (in), 2 A1 (in), 3 A2 (in), 4 A3 (in), 5 A4 (in), 6 A5 (in), 7 A6 (in), 8 A7 (in), 9 A8 (in), 10 GND (power) hidden to GND, 11 Y8 (oc), 12 Y7 (oc), 13 Y6 (oc), 14 Y5 (oc), 15 Y4 (oc), 16 Y3 (oc), 17 Y2 (oc), 18 Y1 (oc), 19 G2 (in), 20 VCC (power) hidden to VCC

## 74ALS746
designator U?
pins: 1 G1 (in), 2 A1 (in), 3 A2 (in), 4 A3 (in), 5 A4 (in), 6 A5 (in), 7 A6 (in), 8 A7 (in), 9 A8 (in), 10 GND (power) hidden to GND, 11 Y8 (hiz), 12 Y7 (hiz), 13 Y6 (hiz), 14 Y5 (hiz), 15 Y4 (hiz), 16 Y3 (hiz), 17 Y2 (hiz), 18 Y1 (hiz), 19 G2 (in), 20 VCC (power) hidden to VCC

## 74ALS747
designator U?
pins: 1 G1 (in), 2 A1 (in), 3 A2 (in), 4 A3 (in), 5 A4 (in), 6 A5 (in), 7 A6 (in), 8 A7 (in), 9 A8 (in), 10 GND (power) hidden to GND, 11 Y8 (hiz), 12 Y7 (hiz), 13 Y6 (hiz), 14 Y5 (hiz), 15 Y4 (hiz), 16 Y3 (hiz), 17 Y2 (hiz), 18 Y1 (hiz), 19 G2 (in), 20 VCC (power) hidden to VCC

## 74ALS756
designator U?
part A pins: 1 G (in), 2 A1 (in), 4 A2 (in), 6 A3 (in), 8 A4 (in), 10 GND (power) hidden to GND, 12 Y4 (oc), 14 Y3 (oc), 16 Y2 (oc), 18 Y1 (oc), 20 VCC (power) hidden to VCC
part B pins: 3 Y4 (oc), 5 Y3 (oc), 7 Y2 (oc), 9 Y1 (oc), 10 GND (power) hidden to GND, 11 A1 (in), 13 A2 (in), 15 A3 (in), 17 A4 (in), 19 G (in), 20 VCC (power) hidden to VCC

## 74ALS760
designator U?
pins: 1 1G (in), 2 1A1 (in), 3 2Y4 (oc), 4 1A2 (in), 5 2Y3 (oc), 6 1A3 (in), 7 2Y2 (oc), 8 1A4 (in), 9 2Y1 (oc), 10 GND (power) hidden to GND, 11 2A1 (in), 12 1Y4 (oc), 13 2A2 (in), 14 1Y3 (oc), 15 2A3 (in), 16 1Y2 (oc), 17 2A4 (in), 18 1Y1 (oc), 19 2G (in), 20 VCC (power) hidden to VCC

## 74ALS762
designator U?
part A pins: 1 G (in), 2 A1 (in), 4 A2 (in), 6 A3 (in), 8 A4 (in), 10 GND (power) hidden to GND, 12 Y4 (oc), 14 Y3 (oc), 16 Y2 (oc), 18 Y1 (oc), 20 VCC (power) hidden to VCC
part B pins: 3 Y4 (oc), 5 Y3 (oc), 7 Y2 (oc), 9 Y1 (oc), 10 GND (power) hidden to GND, 11 A1 (in), 13 A2 (in), 15 A3 (in), 17 A4 (in), 19 G (in), 20 VCC (power) hidden to VCC

## 74ALS763
designator U?
part A pins: 0 G2 (in), 1 G1 (in), 2 A1 (in), 4 A2 (in), 6 A3 (in), 8 A4 (in), 10 GND (power) hidden to GND, 12 Y4 (oc), 14 Y3 (oc), 16 Y2 (oc), 18 Y1 (oc), 20 VCC (power) hidden to VCC
part B pins: 0 G1 (in), 3 Y4 (oc), 5 Y3 (oc), 7 Y2 (oc), 9 Y1 (oc), 10 GND (power) hidden to GND, 11 A1 (in), 13 A2 (in), 15 A3 (in), 17 A4 (in), 19 G2 (in), 20 VCC (power) hidden to VCC

## 74ALS804
designator U?
part A pins: 1 I0 (in), 2 I1 (in), 3 O (out), 10 GND (power) hidden to GND, 20 VCC (power) hidden to VCC
part B pins: 4 I0 (in), 5 I1 (in), 6 O (out), 10 GND (power) hidden to GND, 20 VCC (power) hidden to VCC
part C pins: 7 I0 (in), 8 I1 (in), 9 O (out), 10 GND (power) hidden to GND, 20 VCC (power) hidden to VCC
part D pins: 10 GND (power) hidden to GND, 11 O (out), 12 I0 (in), 13 I1 (in), 20 VCC (power) hidden to VCC
part E pins: 10 GND (power) hidden to GND, 14 O (out), 15 I0 (in), 16 I1 (in), 20 VCC (power) hidden to VCC
part F pins: 10 GND (power) hidden to GND, 17 O (out), 18 I0 (in), 19 I1 (in), 20 VCC (power) hidden to VCC
1 alternate drawing of the same symbol

## 74ALS805
designator U?
part A pins: 1 I0 (in), 2 I1 (in), 3 O (out), 10 GND (power) hidden to GND, 20 VCC (power) hidden to VCC
part B pins: 4 I0 (in), 5 I1 (in), 6 O (out), 10 GND (power) hidden to GND, 20 VCC (power) hidden to VCC
part C pins: 7 I0 (in), 8 I1 (in), 9 O (out), 10 GND (power) hidden to GND, 20 VCC (power) hidden to VCC
part D pins: 10 GND (power) hidden to GND, 11 O (out), 12 I0 (in), 13 I1 (in), 20 VCC (power) hidden to VCC
part E pins: 10 GND (power) hidden to GND, 14 O (out), 15 I0 (in), 16 I1 (in), 20 VCC (power) hidden to VCC
part F pins: 10 GND (power) hidden to GND, 17 O (out), 18 I0 (in), 19 I1 (in), 20 VCC (power) hidden to VCC
1 alternate drawing of the same symbol

## 74ALS808
designator U?
part A pins: 1 I0 (in), 2 I1 (in), 3 O (out), 10 GND (power) hidden to GND, 20 VCC (power) hidden to VCC
part B pins: 4 I0 (in), 5 I1 (in), 6 O (out), 10 GND (power) hidden to GND, 20 VCC (power) hidden to VCC
part C pins: 7 I0 (in), 8 I1 (in), 9 O (out), 10 GND (power) hidden to GND, 20 VCC (power) hidden to VCC
part D pins: 10 GND (power) hidden to GND, 11 O (out), 12 I0 (in), 13 I1 (in), 20 VCC (power) hidden to VCC
part E pins: 10 GND (power) hidden to GND, 14 O (out), 15 I0 (in), 16 I1 (in), 20 VCC (power) hidden to VCC
part F pins: 10 GND (power) hidden to GND, 17 O (out), 18 I0 (in), 19 I1 (in), 20 VCC (power) hidden to VCC
1 alternate drawing of the same symbol

## 74ALS810
designator U?
part A pins: 1 I0 (in), 2 I1 (in), 3 O (out), 7 GND (power) hidden to GND, 14 VCC (power) hidden to VCC
part B pins: 4 I0 (in), 5 I1 (in), 6 O (out), 7 GND (power) hidden to GND, 14 VCC (power) hidden to VCC
part C pins: 7 GND (power) hidden to GND, 8 O (out), 9 I0 (in), 10 I1 (in), 14 VCC (power) hidden to VCC
part D pins: 7 GND (power) hidden to GND, 11 O (out), 12 I0 (in), 13 I1 (in), 14 VCC (power) hidden to VCC

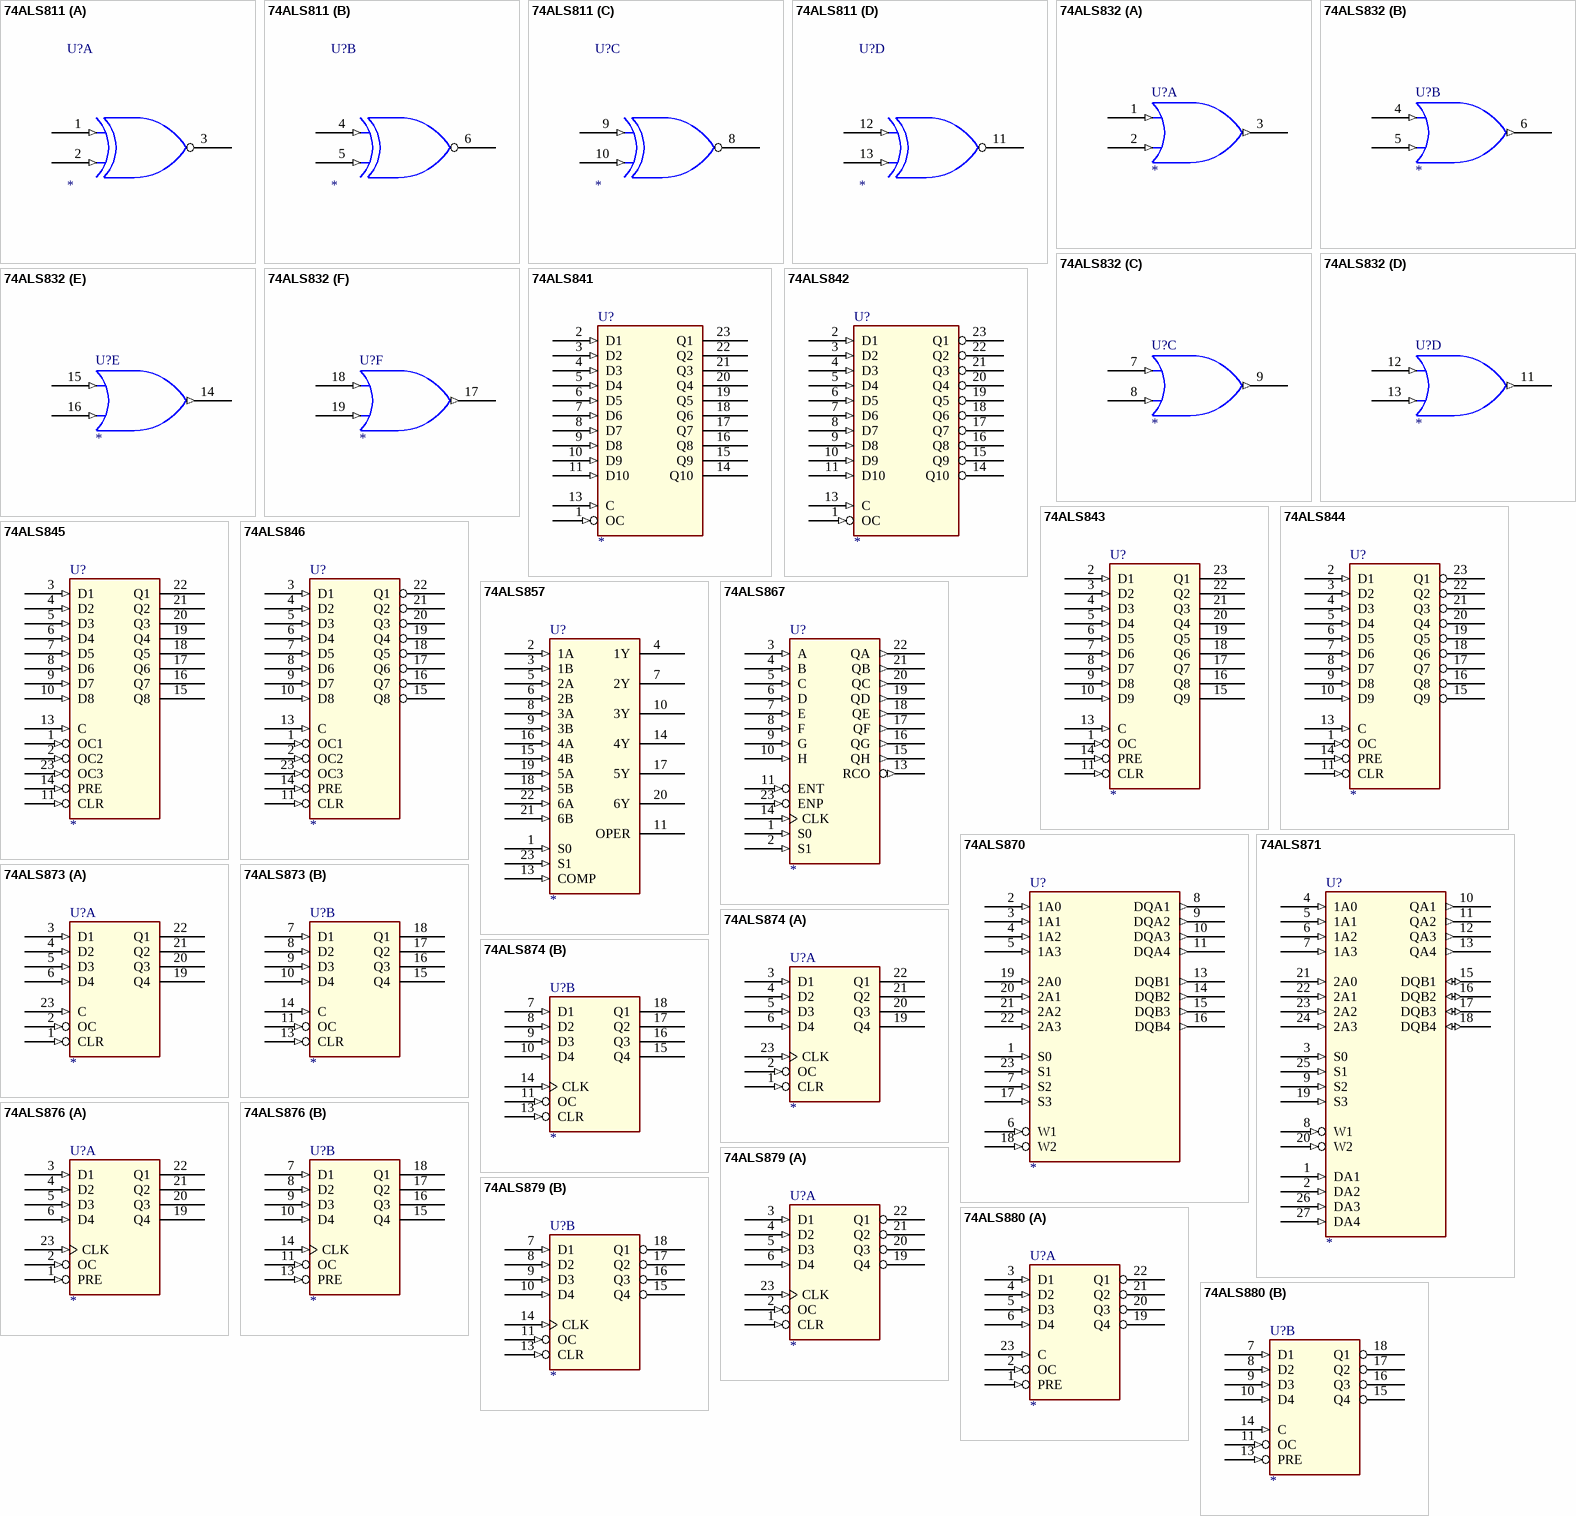
[diagram p4: symbols 74ALS811 to 74ALS880]

## 74ALS811
designator U?
part A pins: 1 I0 (in), 2 I1 (in), 3 O (oc), 7 GND (power) hidden to GND, 14 VCC (power) hidden to VCC
part B pins: 4 I0 (in), 5 I1 (in), 6 O (oc), 7 GND (power) hidden to GND, 14 VCC (power) hidden to VCC
part C pins: 7 GND (power) hidden to GND, 8 O (oc), 9 I0 (in), 10 I1 (in), 14 VCC (power) hidden to VCC
part D pins: 7 GND (power) hidden to GND, 11 O (oc), 12 I0 (in), 13 I1 (in), 14 VCC (power) hidden to VCC

## 74ALS832
designator U?
part A pins: 1 I0 (in), 2 I1 (in), 3 O (out), 10 GND (power) hidden to GND, 20 VCC (power) hidden to VCC
part B pins: 4 I0 (in), 5 I1 (in), 6 O (out), 10 GND (power) hidden to GND, 20 VCC (power) hidden to VCC
part C pins: 7 I0 (in), 8 I1 (in), 9 O (out), 10 GND (power) hidden to GND, 20 VCC (power) hidden to VCC
part D pins: 10 GND (power) hidden to GND, 11 O (out), 12 I0 (in), 13 I1 (in), 20 VCC (power) hidden to VCC
part E pins: 10 GND (power) hidden to GND, 14 O (out), 15 I0 (in), 16 I1 (in), 20 VCC (power) hidden to VCC
part F pins: 10 GND (power) hidden to GND, 17 O (out), 18 I0 (in), 19 I1 (in), 20 VCC (power) hidden to VCC
1 alternate drawing of the same symbol

## 74ALS841
designator U?
pins: 1 OC (in), 2 D1 (in), 3 D2 (in), 4 D3 (in), 5 D4 (in), 6 D5 (in), 7 D6 (in), 8 D7 (in), 9 D8 (in), 10 D9 (in), 11 D10 (in), 12 GND (power) hidden to GND, 13 C (in), 14 Q10 (hiz), 15 Q9 (hiz), 16 Q8 (hiz), 17 Q7 (hiz), 18 Q6 (hiz), 19 Q5 (hiz), 20 Q4 (hiz), 21 Q3 (hiz), 22 Q2 (hiz), 23 Q1 (hiz), 24 VCC (power) hidden to VCC

## 74ALS842
designator U?
pins: 1 OC (in), 2 D1 (in), 3 D2 (in), 4 D3 (in), 5 D4 (in), 6 D5 (in), 7 D6 (in), 8 D7 (in), 9 D8 (in), 10 D9 (in), 11 D10 (in), 12 GND (power) hidden to GND, 13 C (in), 14 Q10 (hiz), 15 Q9 (hiz), 16 Q8 (hiz), 17 Q7 (hiz), 18 Q6 (hiz), 19 Q5 (hiz), 20 Q4 (hiz), 21 Q3 (hiz), 22 Q2 (hiz), 23 Q1 (hiz), 24 VCC (power) hidden to VCC

## 74ALS843
designator U?
pins: 1 OC (in), 2 D1 (in), 3 D2 (in), 4 D3 (in), 5 D4 (in), 6 D5 (in), 7 D6 (in), 8 D7 (in), 9 D8 (in), 10 D9 (in), 11 CLR (in), 12 GND (power) hidden to GND, 13 C (in), 14 PRE (in), 15 Q9 (hiz), 16 Q8 (hiz), 17 Q7 (hiz), 18 Q6 (hiz), 19 Q5 (hiz), 20 Q4 (hiz), 21 Q3 (hiz), 22 Q2 (hiz), 23 Q1 (hiz), 24 VCC (power) hidden to VCC

## 74ALS844
designator U?
pins: 1 OC (in), 2 D1 (in), 3 D2 (in), 4 D3 (in), 5 D4 (in), 6 D5 (in), 7 D6 (in), 8 D7 (in), 9 D8 (in), 10 D9 (in), 11 CLR (in), 12 GND (power) hidden to GND, 13 C (in), 14 PRE (in), 15 Q9 (hiz), 16 Q8 (hiz), 17 Q7 (hiz), 18 Q6 (hiz), 19 Q5 (hiz), 20 Q4 (hiz), 21 Q3 (hiz), 22 Q2 (hiz), 23 Q1 (hiz), 24 VCC (power) hidden to VCC

## 74ALS845
designator U?
pins: 1 OC1 (in), 2 OC2 (in), 3 D1 (in), 4 D2 (in), 5 D3 (in), 6 D4 (in), 7 D5 (in), 8 D6 (in), 9 D7 (in), 10 D8 (in), 11 CLR (in), 12 GND (power) hidden to GND, 13 C (in), 14 PRE (in), 15 Q8 (hiz), 16 Q7 (hiz), 17 Q6 (hiz), 18 Q5 (hiz), 19 Q4 (hiz), 20 Q3 (hiz), 21 Q2 (hiz), 22 Q1 (hiz), 23 OC3 (in), 24 VCC (power) hidden to VCC

## 74ALS846
designator U?
pins: 1 OC1 (in), 2 OC2 (in), 3 D1 (in), 4 D2 (in), 5 D3 (in), 6 D4 (in), 7 D5 (in), 8 D6 (in), 9 D7 (in), 10 D8 (in), 11 CLR (in), 12 GND (power) hidden to GND, 13 C (in), 14 PRE (in), 15 Q8 (hiz), 16 Q7 (hiz), 17 Q6 (hiz), 18 Q5 (hiz), 19 Q4 (hiz), 20 Q3 (hiz), 21 Q2 (hiz), 22 Q1 (hiz), 23 OC3 (in), 24 VCC (power) hidden to VCC

## 74ALS857
designator U?
pins: 1 S0 (in), 2 1A (in), 3 1B (in), 4 1Y (hiz), 5 2A (in), 6 2B (in), 7 2Y (hiz), 8 3A (in), 9 3B (in), 10 3Y (hiz), 11 OPER (hiz), 12 GND (power) hidden to GND, 13 COMP (in), 14 4Y (hiz), 15 4B (in), 16 4A (in), 17 5Y (hiz), 18 5B (in), 19 5A (in), 20 6Y (hiz), 21 6B (in), 22 6A (in), 23 S1 (in), 24 VCC (power) hidden to VCC

## 74ALS867
designator U?
pins: 1 S0 (in), 2 S1 (in), 3 A (in), 4 B (in), 5 C (in), 6 D (in), 7 E (in), 8 F (in), 9 G (in), 10 H (in), 11 ENT (in), 12 GND (power) hidden to GND, 13 RCO (out), 14 CLK (in), 15 QH (out), 16 QG (out), 17 QF (out), 18 QE (out), 19 QD (out), 20 QC (out), 21 QB (out), 22 QA (out), 23 ENP (in), 24 VCC (power) hidden to VCC

## 74ALS870
designator U?
pins: 1 S0 (in), 2 1A0 (in), 3 1A1 (in), 4 1A2 (in), 5 1A3 (in), 6 W1 (in), 7 S2 (in), 8 DQA1 (out), 9 DQA2 (out), 10 DQA3 (out), 11 DQA4 (out), 12 GND (power) hidden to GND, 13 DQB1 (out), 14 DQB2 (out), 15 DQB3 (out), 16 DQB4 (out), 17 S3 (in), 18 W2 (in), 19 2A0 (in), 20 2A1 (in), 21 2A2 (in), 22 2A3 (in), 23 S1 (in), 24 VCC (power) hidden to VCC

## 74ALS871
designator U?
pins: 1 DA1 (in), 2 DA2 (in), 3 S0 (in), 4 1A0 (in), 5 1A1 (in), 6 1A2 (in), 7 1A3 (in), 8 W1 (in), 9 S2 (in), 10 QA1 (out), 11 QA2 (out), 12 QA3 (out), 13 QA4 (out), 14 GND (power) hidden to GND, 15 DQB1 (io), 16 DQB2 (io), 17 DQB3 (io), 18 DQB4 (io), 19 S3 (in), 20 W2 (in), 21 2A0 (in), 22 2A1 (in), 23 2A2 (in), 24 2A3 (in), 25 S1 (in), 26 DA3 (in), 27 DA4 (in), 28 VCC (power) hidden to VCC

## 74ALS873
designator U?
part A pins: 1 CLR (in), 2 OC (in), 3 D1 (in), 4 D2 (in), 5 D3 (in), 6 D4 (in), 12 GND (power) hidden to GND, 19 Q4 (hiz), 20 Q3 (hiz), 21 Q2 (hiz), 22 Q1 (hiz), 23 C (in), 24 VCC (power) hidden to VCC
part B pins: 7 D1 (in), 8 D2 (in), 9 D3 (in), 10 D4 (in), 11 OC (in), 12 GND (power) hidden to GND, 13 CLR (in), 14 C (in), 15 Q4 (hiz), 16 Q3 (hiz), 17 Q2 (hiz), 18 Q1 (hiz), 24 VCC (power) hidden to VCC

## 74ALS874
designator U?
part A pins: 1 CLR (in), 2 OC (in), 3 D1 (in), 4 D2 (in), 5 D3 (in), 6 D4 (in), 12 GND (power) hidden to GND, 19 Q4 (hiz), 20 Q3 (hiz), 21 Q2 (hiz), 22 Q1 (hiz), 23 CLK (in), 24 VCC (power) hidden to VCC
part B pins: 7 D1 (in), 8 D2 (in), 9 D3 (in), 10 D4 (in), 11 OC (in), 12 GND (power) hidden to GND, 13 CLR (in), 14 CLK (in), 15 Q4 (hiz), 16 Q3 (hiz), 17 Q2 (hiz), 18 Q1 (hiz), 24 VCC (power) hidden to VCC

## 74ALS876
designator U?
part A pins: 1 PRE (in), 2 OC (in), 3 D1 (in), 4 D2 (in), 5 D3 (in), 6 D4 (in), 12 GND (power) hidden to GND, 19 Q4 (hiz), 20 Q3 (hiz), 21 Q2 (hiz), 22 Q1 (hiz), 23 CLK (in), 24 VCC (power) hidden to VCC
part B pins: 7 D1 (in), 8 D2 (in), 9 D3 (in), 10 D4 (in), 11 OC (in), 12 GND (power) hidden to GND, 13 PRE (in), 14 CLK (in), 15 Q4 (hiz), 16 Q3 (hiz), 17 Q2 (hiz), 18 Q1 (hiz), 24 VCC (power) hidden to VCC

## 74ALS879
designator U?
part A pins: 1 CLR (in), 2 OC (in), 3 D1 (in), 4 D2 (in), 5 D3 (in), 6 D4 (in), 12 GND (power) hidden to GND, 19 Q4 (hiz), 20 Q3 (hiz), 21 Q2 (hiz), 22 Q1 (hiz), 23 CLK (in), 24 VCC (power) hidden to VCC
part B pins: 7 D1 (in), 8 D2 (in), 9 D3 (in), 10 D4 (in), 11 OC (in), 12 GND (power) hidden to GND, 13 CLR (in), 14 CLK (in), 15 Q4 (hiz), 16 Q3 (hiz), 17 Q2 (hiz), 18 Q1 (hiz), 24 VCC (power) hidden to VCC

## 74ALS880
designator U?
part A pins: 1 PRE (in), 2 OC (in), 3 D1 (in), 4 D2 (in), 5 D3 (in), 6 D4 (in), 12 GND (power) hidden to GND, 19 Q4 (hiz), 20 Q3 (hiz), 21 Q2 (hiz), 22 Q1 (hiz), 23 C (in), 24 VCC (power) hidden to VCC
part B pins: 7 D1 (in), 8 D2 (in), 9 D3 (in), 10 D4 (in), 11 OC (in), 12 GND (power) hidden to GND, 13 PRE (in), 14 C (in), 15 Q4 (hiz), 16 Q3 (hiz), 17 Q2 (hiz), 18 Q1 (hiz), 24 VCC (power) hidden to VCC

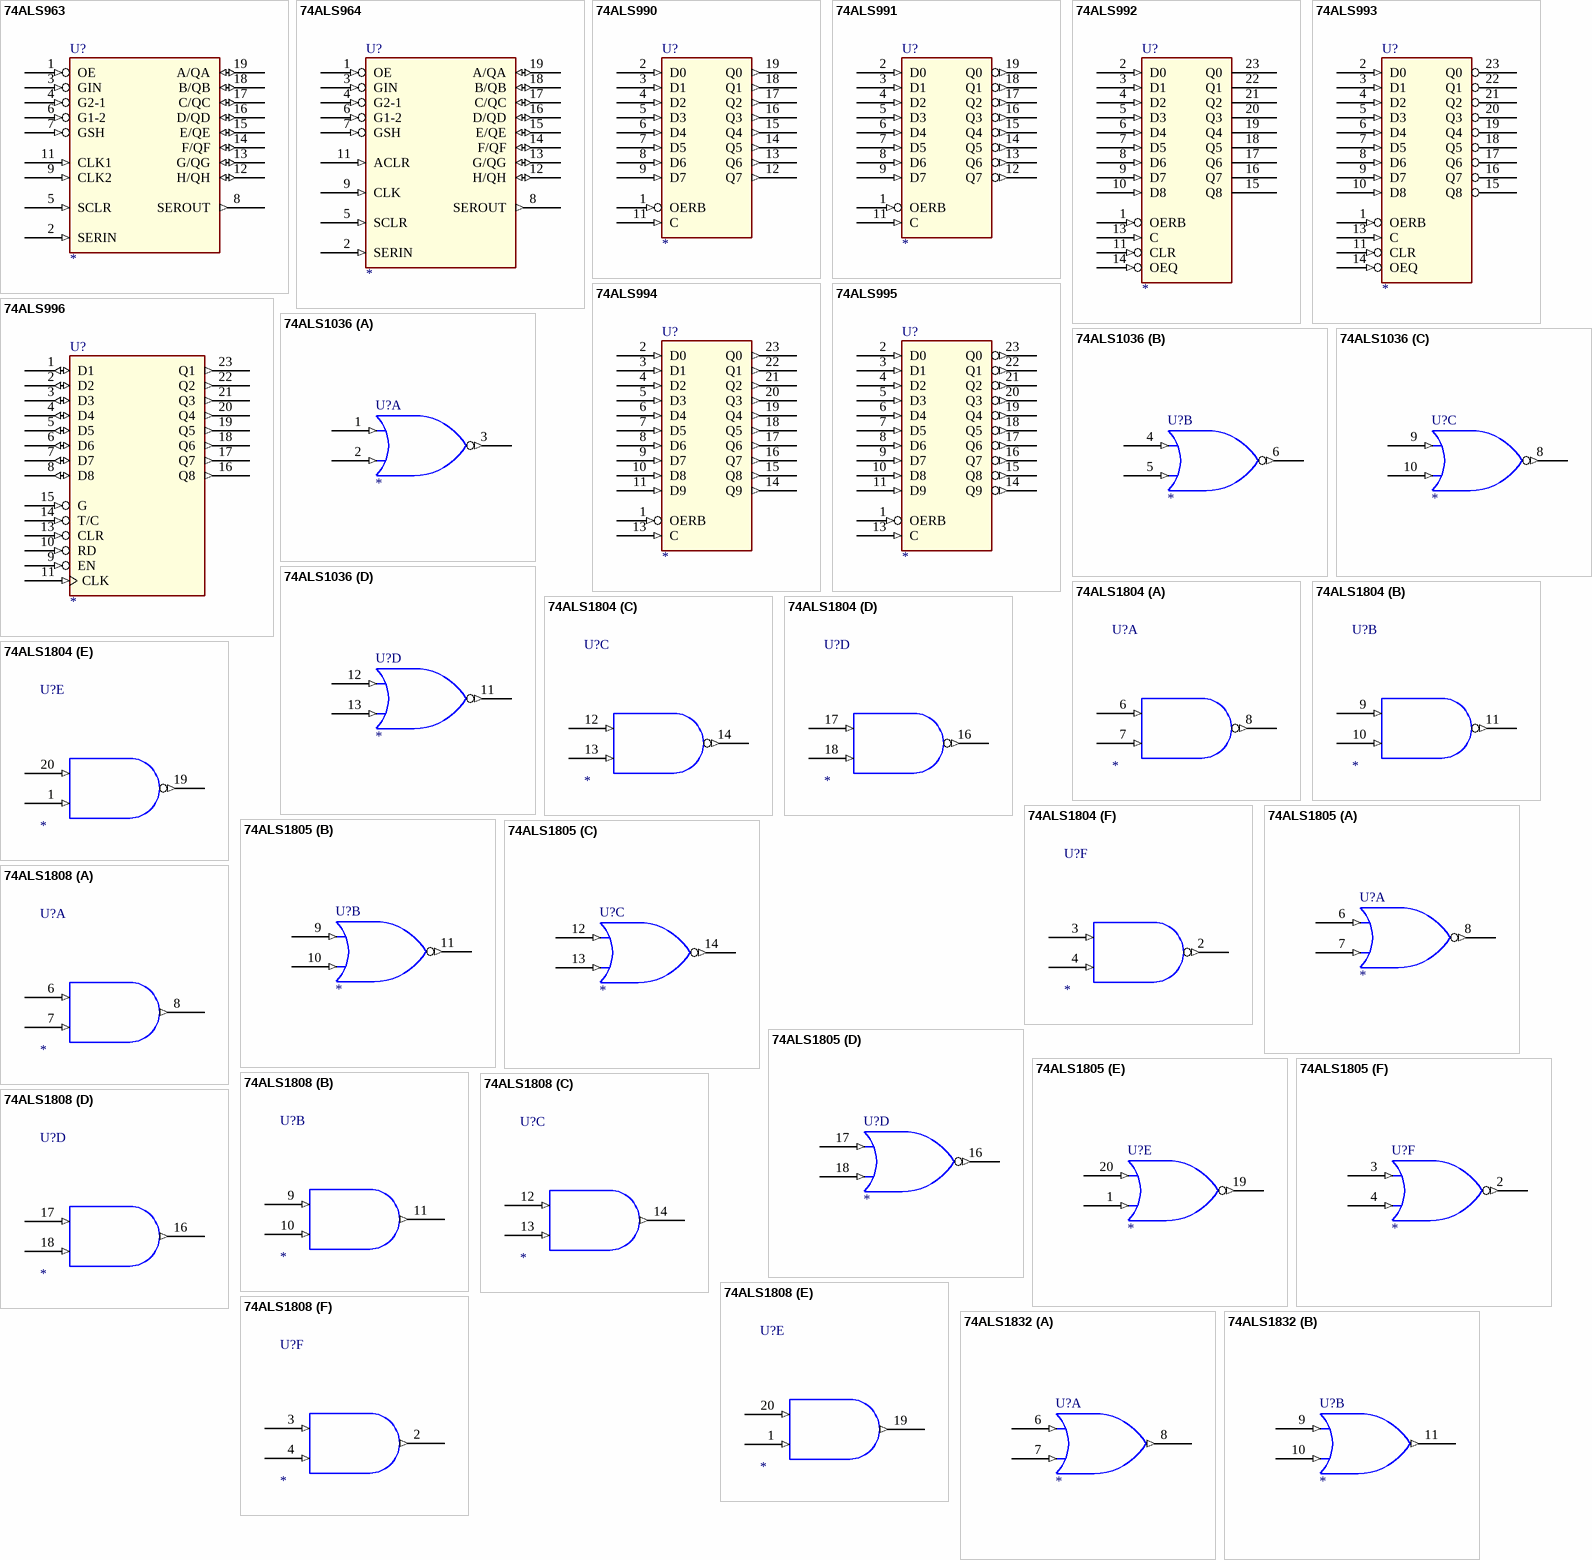
[diagram p5: symbols 74ALS963 to 74ALS1832]

## 74ALS963
designator U?
pins: 1 OE (in), 2 SERIN (in), 3 GIN (in), 4 G2-1 (in), 5 SCLR (in), 6 G1-2 (in), 7 GSH (in), 8 SEROUT (out), 9 CLK2 (in), 10 GND (power) hidden to GND, 11 CLK1 (in), 12 H/QH (io), 13 G/QG (io), 14 F/QF (io), 15 E/QE (io), 16 D/QD (io), 17 C/QC (io), 18 B/QB (io), 19 A/QA (io), 20 VCC (power) hidden to VCC

## 74ALS964
designator U?
pins: 1 OE (in), 2 SERIN (in), 3 GIN (in), 4 G2-1 (in), 5 SCLR (in), 6 G1-2 (in), 7 GSH (in), 8 SEROUT (out), 9 CLK (in), 10 GND (power) hidden to GND, 11 ACLR (in), 12 H/QH (io), 13 G/QG (io), 14 F/QF (io), 15 E/QE (io), 16 D/QD (io), 17 C/QC (io), 18 B/QB (io), 19 A/QA (io), 20 VCC (power) hidden to VCC

## 74ALS990
designator U?
pins: 1 OERB (in), 2 D0 (in), 3 D1 (in), 4 D2 (in), 5 D3 (in), 6 D4 (in), 7 D5 (in), 8 D6 (in), 9 D7 (in), 10 GND (power) hidden to GND, 11 C (in), 12 Q7 (out), 13 Q6 (out), 14 Q5 (out), 15 Q4 (out), 16 Q3 (out), 17 Q2 (out), 18 Q1 (out), 19 Q0 (out), 20 VCC (power) hidden to VCC

## 74ALS991
designator U?
pins: 1 OERB (in), 2 D0 (in), 3 D1 (in), 4 D2 (in), 5 D3 (in), 6 D4 (in), 7 D5 (in), 8 D6 (in), 9 D7 (in), 10 GND (power) hidden to GND, 11 C (in), 12 Q7 (out), 13 Q6 (out), 14 Q5 (out), 15 Q4 (out), 16 Q3 (out), 17 Q2 (out), 18 Q1 (out), 19 Q0 (out), 20 VCC (power) hidden to VCC

## 74ALS992
designator U?
pins: 1 OERB (in), 2 D0 (in), 3 D1 (in), 4 D2 (in), 5 D3 (in), 6 D4 (in), 7 D5 (in), 8 D6 (in), 9 D7 (in), 10 D8 (in), 11 CLR (in), 12 GND (power) hidden to GND, 13 C (in), 14 OEQ (in), 15 Q8 (hiz), 16 Q7 (hiz), 17 Q6 (hiz), 18 Q5 (hiz), 19 Q4 (hiz), 20 Q3 (hiz), 21 Q2 (hiz), 22 Q1 (hiz), 23 Q0 (hiz), 24 VCC (power) hidden to VCC

## 74ALS993
designator U?
pins: 1 OERB (in), 2 D0 (in), 3 D1 (in), 4 D2 (in), 5 D3 (in), 6 D4 (in), 7 D5 (in), 8 D6 (in), 9 D7 (in), 10 D8 (in), 11 CLR (in), 12 GND (power) hidden to GND, 13 C (in), 14 OEQ (in), 15 Q8 (hiz), 16 Q7 (hiz), 17 Q6 (hiz), 18 Q5 (hiz), 19 Q4 (hiz), 20 Q3 (hiz), 21 Q2 (hiz), 22 Q1 (hiz), 23 Q0 (hiz), 24 VCC (power) hidden to VCC

## 74ALS994
designator U?
pins: 1 OERB (in), 2 D0 (in), 3 D1 (in), 4 D2 (in), 5 D3 (in), 6 D4 (in), 7 D5 (in), 8 D6 (in), 9 D7 (in), 10 D8 (in), 11 D9 (in), 12 GND (power) hidden to GND, 13 C (in), 14 Q9 (out), 15 Q8 (out), 16 Q7 (out), 17 Q6 (out), 18 Q5 (out), 19 Q4 (out), 20 Q3 (out), 21 Q2 (out), 22 Q1 (out), 23 Q0 (out), 24 VCC (power) hidden to VCC

## 74ALS995
designator U?
pins: 1 OERB (in), 2 D0 (in), 3 D1 (in), 4 D2 (in), 5 D3 (in), 6 D4 (in), 7 D5 (in), 8 D6 (in), 9 D7 (in), 10 D8 (in), 11 D9 (in), 12 GND (power) hidden to GND, 13 C (in), 14 Q9 (out), 15 Q8 (out), 16 Q7 (out), 17 Q6 (out), 18 Q5 (out), 19 Q4 (out), 20 Q3 (out), 21 Q2 (out), 22 Q1 (out), 23 Q0 (out), 24 VCC (power) hidden to VCC

## 74ALS996
designator U?
pins: 1 D1 (io), 2 D2 (io), 3 D3 (io), 4 D4 (io), 5 D5 (io), 6 D6 (io), 7 D7 (io), 8 D8 (io), 9 EN (in), 10 RD (in), 11 CLK (in), 12 GND (power) hidden to GND, 13 CLR (in), 14 T/C (in), 15 G (in), 16 Q8 (out), 17 Q7 (out), 18 Q6 (out), 19 Q5 (out), 20 Q4 (out), 21 Q3 (out), 22 Q2 (out), 23 Q1 (out), 24 VCC (power) hidden to VCC

## 74ALS1036
designator U?
part A pins: 1 I0 (in), 2 I1 (in), 3 O (out), 7 GND (power) hidden to GND, 14 VCC (power) hidden to VCC
part B pins: 4 I0 (in), 5 I1 (in), 6 O (out), 7 GND (power) hidden to GND, 14 VCC (power) hidden to VCC
part C pins: 7 GND (power) hidden to GND, 8 O (out), 9 I0 (in), 10 I1 (in), 14 VCC (power) hidden to VCC
part D pins: 7 GND (power) hidden to GND, 11 O (out), 12 I0 (in), 13 I1 (in), 14 VCC (power) hidden to VCC
1 alternate drawing of the same symbol

## 74ALS1804
designator U?
part A pins: 5 VCC (power) hidden to VCC, 6 I0 (in), 7 I1 (in), 8 O (out), 15 GND (power) hidden to GND
part B pins: 5 VCC (power) hidden to VCC, 9 I0 (in), 10 I1 (in), 11 O (out), 15 GND (power) hidden to GND
part C pins: 5 VCC (power) hidden to VCC, 12 I0 (in), 13 I1 (in), 14 O (out), 15 GND (power) hidden to GND
part D pins: 5 VCC (power) hidden to VCC, 15 GND (power) hidden to GND, 16 O (out), 17 I0 (in), 18 I1 (in)
part E pins: 1 I1 (in), 5 VCC (power) hidden to VCC, 15 GND (power) hidden to GND, 19 O (out), 20 I0 (in)
part F pins: 2 O (out), 3 I0 (in), 4 I1 (in), 5 VCC (power) hidden to VCC, 15 GND (power) hidden to GND
1 alternate drawing of the same symbol

## 74ALS1805
designator U?
part A pins: 5 VCC (power) hidden to VCC, 6 I0 (in), 7 I1 (in), 8 O (out), 15 GND (power) hidden to GND
part B pins: 5 VCC (power) hidden to VCC, 9 I0 (in), 10 I1 (in), 11 O (out), 15 GND (power) hidden to GND
part C pins: 5 VCC (power) hidden to VCC, 12 I0 (in), 13 I1 (in), 14 O (out), 15 GND (power) hidden to GND
part D pins: 5 VCC (power) hidden to VCC, 15 GND (power) hidden to GND, 16 O (out), 17 I0 (in), 18 I1 (in)
part E pins: 1 I1 (in), 5 VCC (power) hidden to VCC, 15 GND (power) hidden to GND, 19 O (out), 20 I0 (in)
part F pins: 2 O (out), 3 I0 (in), 4 I1 (in), 5 VCC (power) hidden to VCC, 15 GND (power) hidden to GND
1 alternate drawing of the same symbol

## 74ALS1808
designator U?
part A pins: 5 VCC (power) hidden to VCC, 6 I0 (in), 7 I1 (in), 8 O (out), 15 GND (power) hidden to GND
part B pins: 5 VCC (power) hidden to VCC, 9 I0 (in), 10 I1 (in), 11 O (out), 15 GND (power) hidden to GND
part C pins: 5 VCC (power) hidden to VCC, 12 I0 (in), 13 I1 (in), 14 O (out), 15 GND (power) hidden to GND
part D pins: 5 VCC (power) hidden to VCC, 15 GND (power) hidden to GND, 16 O (out), 17 I0 (in), 18 I1 (in)
part E pins: 1 I1 (in), 5 VCC (power) hidden to VCC, 15 GND (power) hidden to GND, 19 O (out), 20 I0 (in)
part F pins: 2 O (out), 3 I0 (in), 4 I1 (in), 5 VCC (power) hidden to VCC, 15 GND (power) hidden to GND
1 alternate drawing of the same symbol

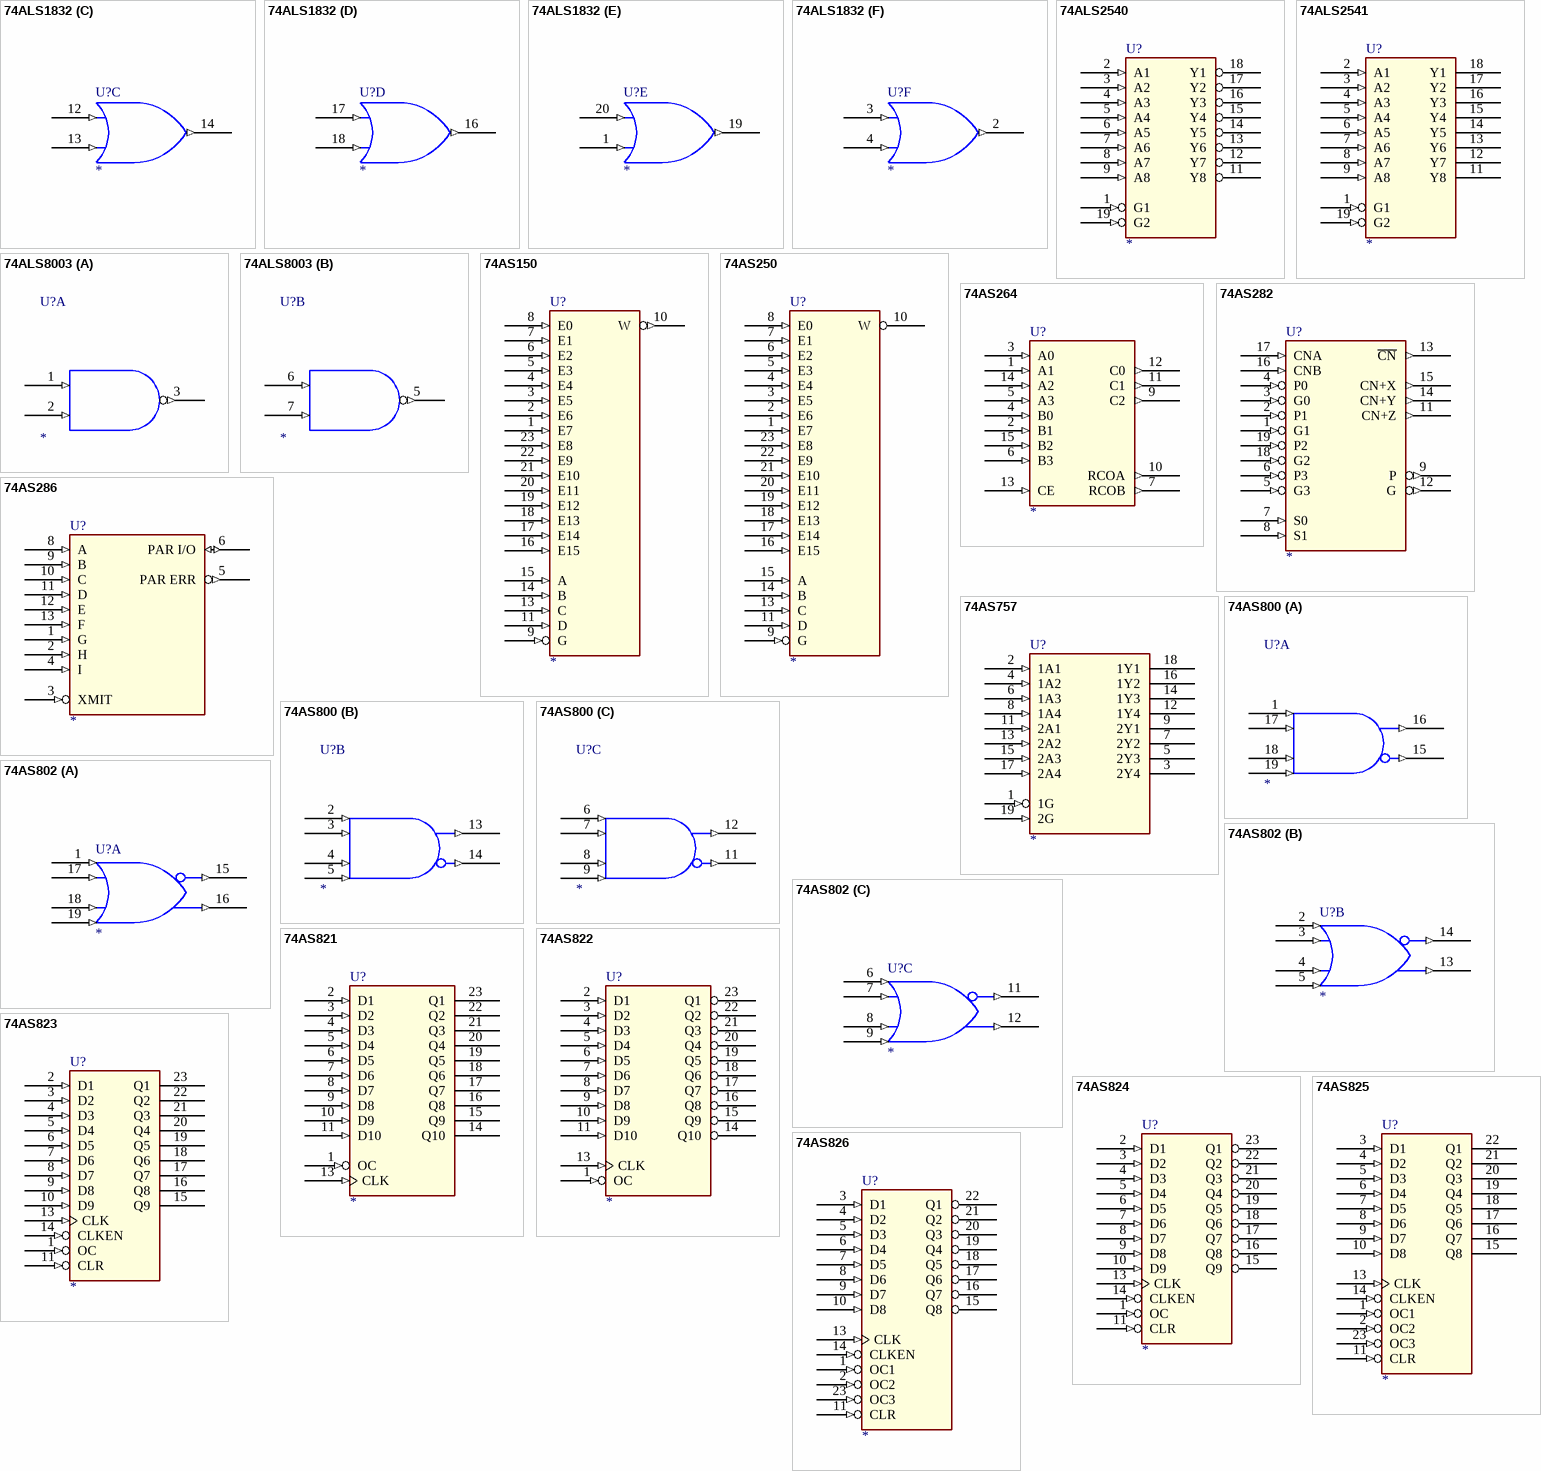
[diagram p6: symbols 74ALS1832 to 74AS826]

## 74ALS1832
designator U?
part A pins: 5 VCC (power) hidden to VCC, 6 I0 (in), 7 I1 (in), 8 O (out), 15 GND (power) hidden to GND
part B pins: 5 VCC (power) hidden to VCC, 9 I0 (in), 10 I1 (in), 11 O (out), 15 GND (power) hidden to GND
part C pins: 5 VCC (power) hidden to VCC, 12 I0 (in), 13 I1 (in), 14 O (out), 15 GND (power) hidden to GND
part D pins: 5 VCC (power) hidden to VCC, 15 GND (power) hidden to GND, 16 O (out), 17 I0 (in), 18 I1 (in)
part E pins: 1 I1 (in), 5 VCC (power) hidden to VCC, 15 GND (power) hidden to GND, 19 O (out), 20 I0 (in)
part F pins: 2 O (out), 3 I0 (in), 4 I1 (in), 5 VCC (power) hidden to VCC, 15 GND (power) hidden to GND
1 alternate drawing of the same symbol

## 74ALS2540
designator U?
pins: 1 G1 (in), 2 A1 (in), 3 A2 (in), 4 A3 (in), 5 A4 (in), 6 A5 (in), 7 A6 (in), 8 A7 (in), 9 A8 (in), 10 GND (power) hidden to GND, 11 Y8 (hiz), 12 Y7 (hiz), 13 Y6 (hiz), 14 Y5 (hiz), 15 Y4 (hiz), 16 Y3 (hiz), 17 Y2 (hiz), 18 Y1 (hiz), 19 G2 (in), 20 VCC (power) hidden to VCC

## 74ALS2541
designator U?
pins: 1 G1 (in), 2 A1 (in), 3 A2 (in), 4 A3 (in), 5 A4 (in), 6 A5 (in), 7 A6 (in), 8 A7 (in), 9 A8 (in), 10 GND (power) hidden to GND, 11 Y8 (hiz), 12 Y7 (hiz), 13 Y6 (hiz), 14 Y5 (hiz), 15 Y4 (hiz), 16 Y3 (hiz), 17 Y2 (hiz), 18 Y1 (hiz), 19 G2 (in), 20 VCC (power) hidden to VCC

## 74ALS8003
designator U?
part A pins: 1 I0 (in), 2 I1 (in), 3 O (out), 4 GND (power) hidden to GND, 8 VCC (power) hidden to VCC
part B pins: 4 GND (power) hidden to GND, 5 O (out), 6 I0 (in), 7 I1 (in), 8 VCC (power) hidden to VCC
1 alternate drawing of the same symbol

## 74AS150
designator U?
pins: 1 E7 (in), 2 E6 (in), 3 E5 (in), 4 E4 (in), 5 E3 (in), 6 E2 (in), 7 E1 (in), 8 E0 (in), 9 G (in), 10 W (out), 11 D (in), 12 GND (power) hidden to GND, 13 C (in), 14 B (in), 15 A (in), 16 E15 (in), 17 E14 (in), 18 E13 (in), 19 E12 (in), 20 E11 (in), 21 E10 (in), 22 E9 (in), 23 E8 (in), 24 VCC (power) hidden to VCC

## 74AS250
designator U?
pins: 1 E7 (in), 2 E6 (in), 3 E5 (in), 4 E4 (in), 5 E3 (in), 6 E2 (in), 7 E1 (in), 8 E0 (in), 9 G (in), 10 W (hiz), 11 D (in), 12 GND (power) hidden to GND, 13 C (in), 14 B (in), 15 A (in), 16 E15 (in), 17 E14 (in), 18 E13 (in), 19 E12 (in), 20 E11 (in), 21 E10 (in), 22 E9 (in), 23 E8 (in), 24 VCC (power) hidden to VCC

## 74AS264
designator U?
pins: 1 A1 (in), 2 B1 (in), 3 A0 (in), 4 B0 (in), 5 A3 (in), 6 B3 (in), 7 RCOB (out), 8 GND (power) hidden to GND, 9 C2 (out), 10 RCOA (out), 11 C1 (out), 12 C0 (out), 13 CE (in), 14 A2 (in), 15 B2 (in), 16 VCC (power) hidden to VCC

## 74AS282
designator U?
pins: 1 G1 (in), 2 P1 (in), 3 G0 (in), 4 P0 (in), 5 G3 (in), 6 P3 (in), 7 S0 (in), 8 S1 (in), 9 P (out), 10 GND (power) hidden to GND, 11 CN+Z (out), 12 G (out), 13 ~{CN} (out), 14 CN+Y (out), 15 CN+X (out), 16 CNB (in), 17 CNA (in), 18 G2 (in), 19 P2 (in), 20 VCC (power) hidden to VCC

## 74AS286
designator U?
pins: 1 G (in), 2 H (in), 3 XMIT (in), 4 I (in), 5 PAR ERR (out), 6 PAR I/O (io), 7 GND (power) hidden to GND, 8 A (in), 9 B (in), 10 C (in), 11 D (in), 12 E (in), 13 F (in), 14 VCC (power) hidden to VCC

## 74AS757
designator U?
pins: 1 1G (in), 2 1A1 (in), 3 2Y4 (oc), 4 1A2 (in), 5 2Y3 (oc), 6 1A3 (in), 7 2Y2 (oc), 8 1A4 (in), 9 2Y1 (oc), 10 GND (power) hidden to GND, 11 2A1 (in), 12 1Y4 (oc), 13 2A2 (in), 14 1Y3 (oc), 15 2A3 (in), 16 1Y2 (oc), 17 2A4 (in), 18 1Y1 (oc), 19 2G (in), 20 VCC (power) hidden to VCC

## 74AS800
designator U?
part A pins: 1 A (in), 10 GND (power) hidden to GND, 15 Z (out), 16 Y (out), 17 B (in), 18 C (in), 19 D (in), 20 VCC (power) hidden to VCC
part B pins: 2 A (in), 3 B (in), 4 C (in), 5 D (in), 10 GND (power) hidden to GND, 13 Y (out), 14 Z (out), 20 VCC (power) hidden to VCC
part C pins: 6 A (in), 7 B (in), 8 C (in), 9 D (in), 10 GND (power) hidden to GND, 11 Z (out), 12 Y (out), 20 VCC (power) hidden to VCC
1 alternate drawing of the same symbol

## 74AS802
designator U?
part A pins: 1 A (in), 10 GND (power) hidden to GND, 15 Z (out), 16 Y (out), 17 B (in), 18 C (in), 19 D (in), 20 VCC (power) hidden to VCC
part B pins: 2 A (in), 3 B (in), 4 C (in), 5 D (in), 10 GND (power) hidden to GND, 13 Y (out), 14 Z (out), 20 VCC (power) hidden to VCC
part C pins: 6 A (in), 7 B (in), 8 C (in), 9 D (in), 10 GND (power) hidden to GND, 11 Z (out), 12 Y (out), 20 VCC (power) hidden to VCC
1 alternate drawing of the same symbol

## 74AS821
designator U?
pins: 1 OC (in), 2 D1 (in), 3 D2 (in), 4 D3 (in), 5 D4 (in), 6 D5 (in), 7 D6 (in), 8 D7 (in), 9 D8 (in), 10 D9 (in), 11 D10 (in), 12 GND (power) hidden to GND, 13 CLK (in), 14 Q10 (hiz), 15 Q9 (hiz), 16 Q8 (hiz), 17 Q7 (hiz), 18 Q6 (hiz), 19 Q5 (hiz), 20 Q4 (hiz), 21 Q3 (hiz), 22 Q2 (hiz), 23 Q1 (hiz), 24 VCC (power) hidden to VCC

## 74AS822
designator U?
pins: 1 OC (in), 2 D1 (in), 3 D2 (in), 4 D3 (in), 5 D4 (in), 6 D5 (in), 7 D6 (in), 8 D7 (in), 9 D8 (in), 10 D9 (in), 11 D10 (in), 12 GND (power) hidden to GND, 13 CLK (in), 14 Q10 (hiz), 15 Q9 (hiz), 16 Q8 (hiz), 17 Q7 (hiz), 18 Q6 (hiz), 19 Q5 (hiz), 20 Q4 (hiz), 21 Q3 (hiz), 22 Q2 (hiz), 23 Q1 (hiz), 24 VCC (power) hidden to VCC

## 74AS823
designator U?
pins: 1 OC (in), 2 D1 (in), 3 D2 (in), 4 D3 (in), 5 D4 (in), 6 D5 (in), 7 D6 (in), 8 D7 (in), 9 D8 (in), 10 D9 (in), 11 CLR (in), 12 GND (power) hidden to GND, 13 CLK (in), 14 CLKEN (in), 15 Q9 (hiz), 16 Q8 (hiz), 17 Q7 (hiz), 18 Q6 (hiz), 19 Q5 (hiz), 20 Q4 (hiz), 21 Q3 (hiz), 22 Q2 (hiz), 23 Q1 (hiz), 24 VCC (power) hidden to VCC

## 74AS824
designator U?
pins: 1 OC (in), 2 D1 (in), 3 D2 (in), 4 D3 (in), 5 D4 (in), 6 D5 (in), 7 D6 (in), 8 D7 (in), 9 D8 (in), 10 D9 (in), 11 CLR (in), 12 GND (power) hidden to GND, 13 CLK (in), 14 CLKEN (in), 15 Q9 (hiz), 16 Q8 (hiz), 17 Q7 (hiz), 18 Q6 (hiz), 19 Q5 (hiz), 20 Q4 (hiz), 21 Q3 (hiz), 22 Q2 (hiz), 23 Q1 (hiz), 24 VCC (power) hidden to VCC

## 74AS825
designator U?
pins: 1 OC1 (in), 2 OC2 (in), 3 D1 (in), 4 D2 (in), 5 D3 (in), 6 D4 (in), 7 D5 (in), 8 D6 (in), 9 D7 (in), 10 D8 (in), 11 CLR (in), 12 GND (power) hidden to GND, 13 CLK (in), 14 CLKEN (in), 15 Q8 (hiz), 16 Q7 (hiz), 17 Q6 (hiz), 18 Q5 (hiz), 19 Q4 (hiz), 20 Q3 (hiz), 21 Q2 (hiz), 22 Q1 (hiz), 23 OC3 (in), 24 VCC (power) hidden to VCC

## 74AS826
designator U?
pins: 1 OC1 (in), 2 OC2 (in), 3 D1 (in), 4 D2 (in), 5 D3 (in), 6 D4 (in), 7 D5 (in), 8 D6 (in), 9 D7 (in), 10 D8 (in), 11 CLR (in), 12 GND (power) hidden to GND, 13 CLK (in), 14 CLKEN (in), 15 Q8 (hiz), 16 Q7 (hiz), 17 Q6 (hiz), 18 Q5 (hiz), 19 Q4 (hiz), 20 Q3 (hiz), 21 Q2 (hiz), 22 Q1 (hiz), 23 OC3 (in), 24 VCC (power) hidden to VCC

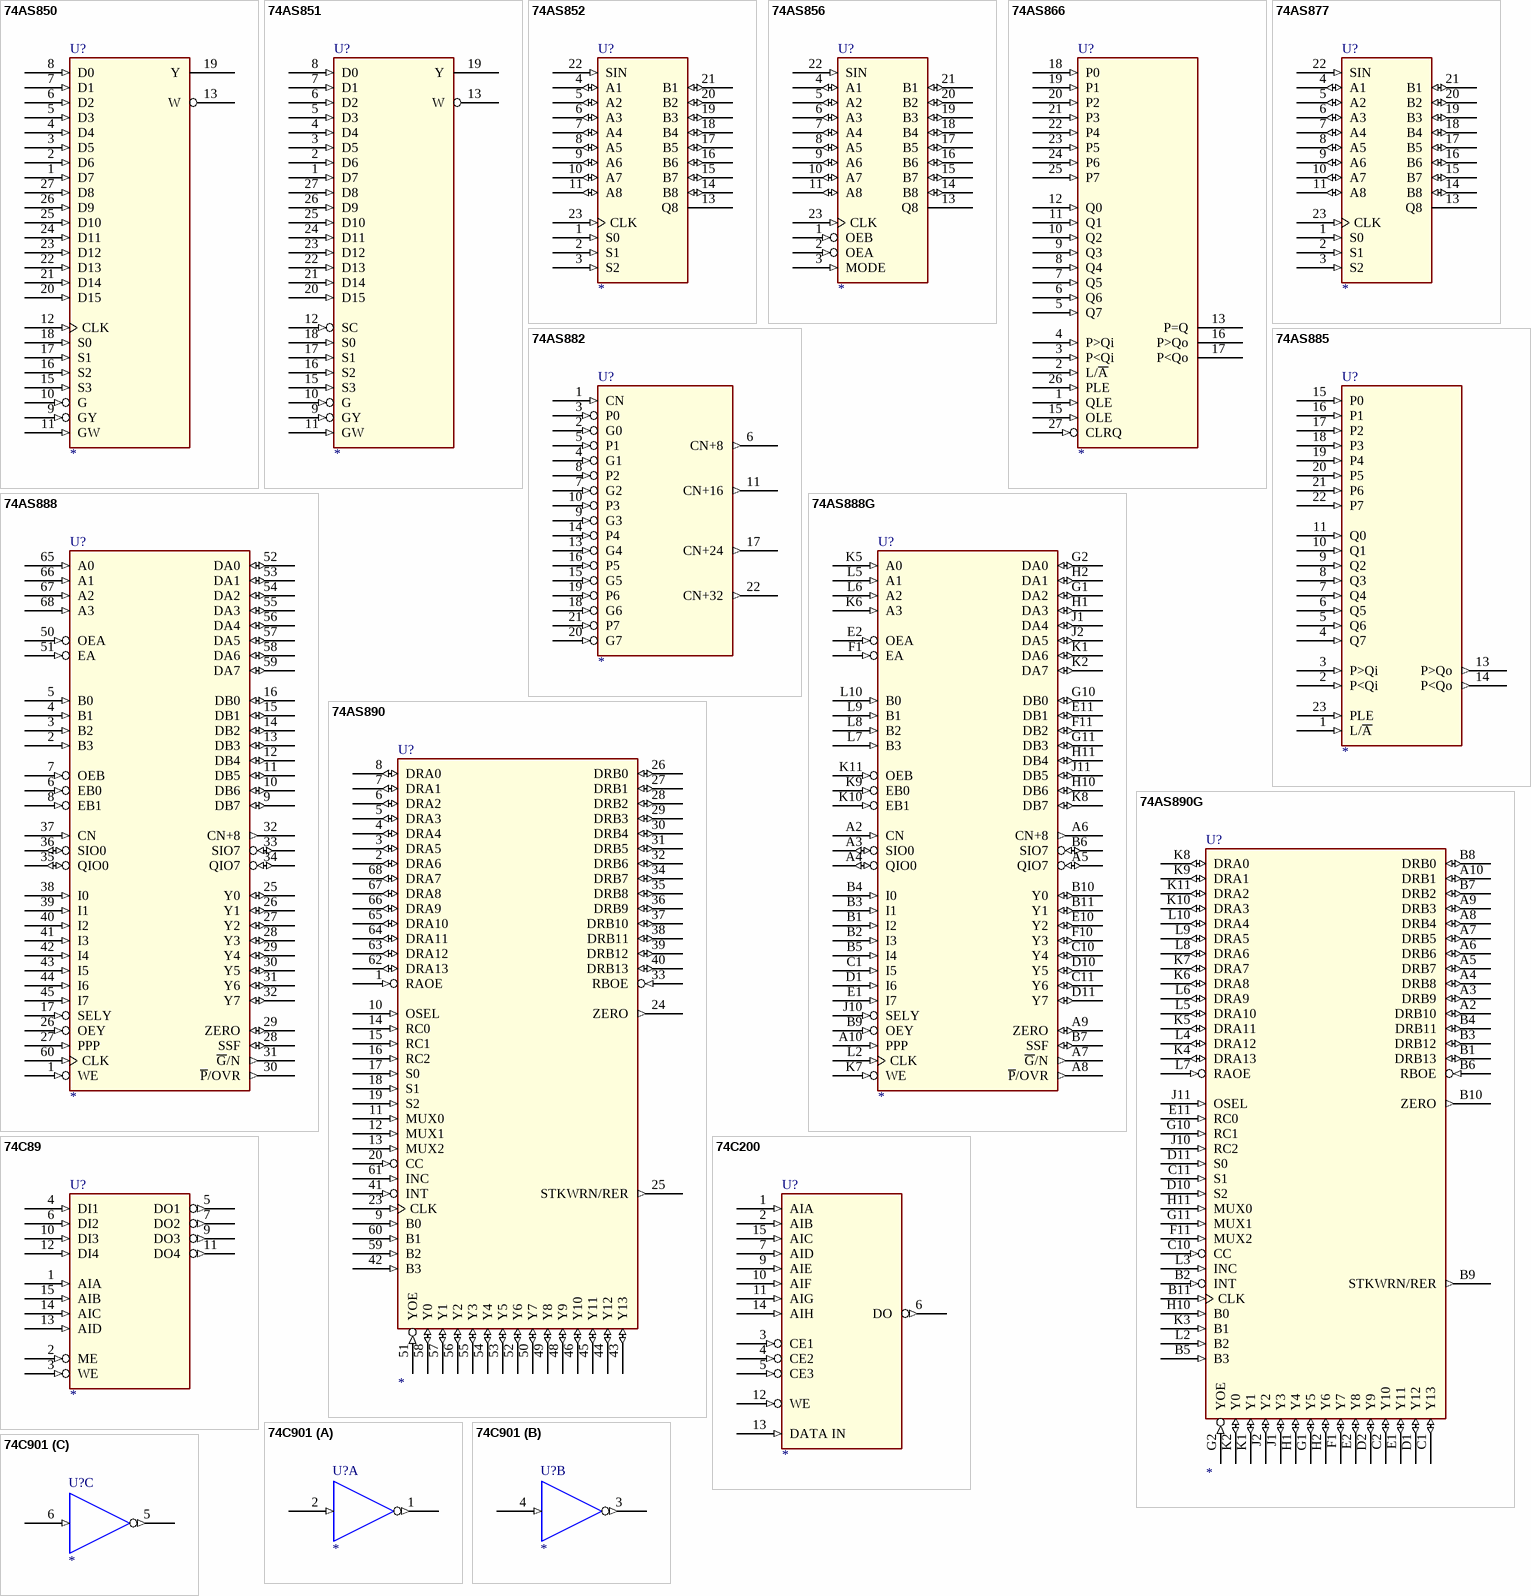
[diagram p7: symbols 74AS850 to 74C901]

## 74AS850
designator U?
pins: 1 D7 (in), 2 D6 (in), 3 D5 (in), 4 D4 (in), 5 D3 (in), 6 D2 (in), 7 D1 (in), 8 D0 (in), 9 GY (in), 10 G (in), 11 GW (in), 12 CLK (in), 13 W (hiz), 14 GND (power) hidden to GND, 15 S3 (in), 16 S2 (in), 17 S1 (in), 18 S0 (in), 19 Y (hiz), 20 D15 (in), 21 D14 (in), 22 D13 (in), 23 D12 (in), 24 D11 (in), 25 D10 (in), 26 D9 (in), 27 D8 (in), 28 VCC (power) hidden to VCC

## 74AS851
designator U?
pins: 1 D7 (in), 2 D6 (in), 3 D5 (in), 4 D4 (in), 5 D3 (in), 6 D2 (in), 7 D1 (in), 8 D0 (in), 9 GY (in), 10 G (in), 11 GW (in), 12 SC (in), 13 W (hiz), 14 GND (power) hidden to GND, 15 S3 (in), 16 S2 (in), 17 S1 (in), 18 S0 (in), 19 Y (hiz), 20 D15 (in), 21 D14 (in), 22 D13 (in), 23 D12 (in), 24 D11 (in), 25 D10 (in), 26 D9 (in), 27 D8 (in), 28 VCC (power) hidden to VCC

## 74AS852
designator U?
pins: 1 S0 (in), 2 S1 (in), 3 S2 (in), 4 A1 (io), 5 A2 (io), 6 A3 (io), 7 A4 (io), 8 A5 (io), 9 A6 (io), 10 A7 (io), 11 A8 (io), 12 GND (power) hidden to GND, 13 Q8 (hiz), 14 B8 (io), 15 B7 (io), 16 B6 (io), 17 B5 (io), 18 B4 (io), 19 B3 (io), 20 B2 (io), 21 B1 (io), 22 SIN (in), 23 CLK (in), 24 VCC (power) hidden to VCC

## 74AS856
designator U?
pins: 1 OEB (in), 2 OEA (in), 3 MODE (in), 4 A1 (io), 5 A2 (io), 6 A3 (io), 7 A4 (io), 8 A5 (io), 9 A6 (io), 10 A7 (io), 11 A8 (io), 12 GND (power) hidden to GND, 13 Q8 (hiz), 14 B8 (io), 15 B7 (io), 16 B6 (io), 17 B5 (io), 18 B4 (io), 19 B3 (io), 20 B2 (io), 21 B1 (io), 22 SIN (in), 23 CLK (in), 24 VCC (power) hidden to VCC

## 74AS866
designator U?
pins: 1 QLE (in), 2 L/~{A} (in), 3 P<Qi (in), 4 P>Qi (in), 5 Q7 (in), 6 Q6 (in), 7 Q5 (in), 8 Q4 (in), 9 Q3 (in), 10 Q2 (in), 11 Q1 (in), 12 Q0 (in), 13 P=Q (oc), 14 GND (power) hidden to GND, 15 OLE (in), 16 P>Qo (oc), 17 P<Qo (oc), 18 P0 (in), 19 P1 (in), 20 P2 (in), 21 P3 (in), 22 P4 (in), 23 P5 (in), 24 P6 (in), 25 P7 (in), 26 PLE (in), 27 CLRQ (in), 28 VCC (power) hidden to VCC

## 74AS877
designator U?
pins: 1 S0 (in), 2 S1 (in), 3 S2 (in), 4 A1 (io), 5 A2 (io), 6 A3 (io), 7 A4 (io), 8 A5 (io), 9 A6 (io), 10 A7 (io), 11 A8 (io), 12 GND (power) hidden to GND, 13 Q8 (hiz), 14 B8 (io), 15 B7 (io), 16 B6 (io), 17 B5 (io), 18 B4 (io), 19 B3 (io), 20 B2 (io), 21 B1 (io), 22 SIN (in), 23 CLK (in), 24 VCC (power) hidden to VCC

## 74AS882
designator U?
pins: 1 CN (in), 2 G0 (in), 3 P0 (in), 4 G1 (in), 5 P1 (in), 6 CN+8 (out), 7 G2 (in), 8 P2 (in), 9 G3 (in), 10 P3 (in), 11 CN+16 (out), 12 GND (power) hidden to GND, 13 G4 (in), 14 P4 (in), 15 G5 (in), 16 P5 (in), 17 CN+24 (out), 18 G6 (in), 19 P6 (in), 20 G7 (in), 21 P7 (in), 22 CN+32 (out), 24 VCC (power) hidden to VCC